# Altium integrated library Motorola Microcontroller 8-Bit.IntLib: 909 symbols (part 16 of 31)
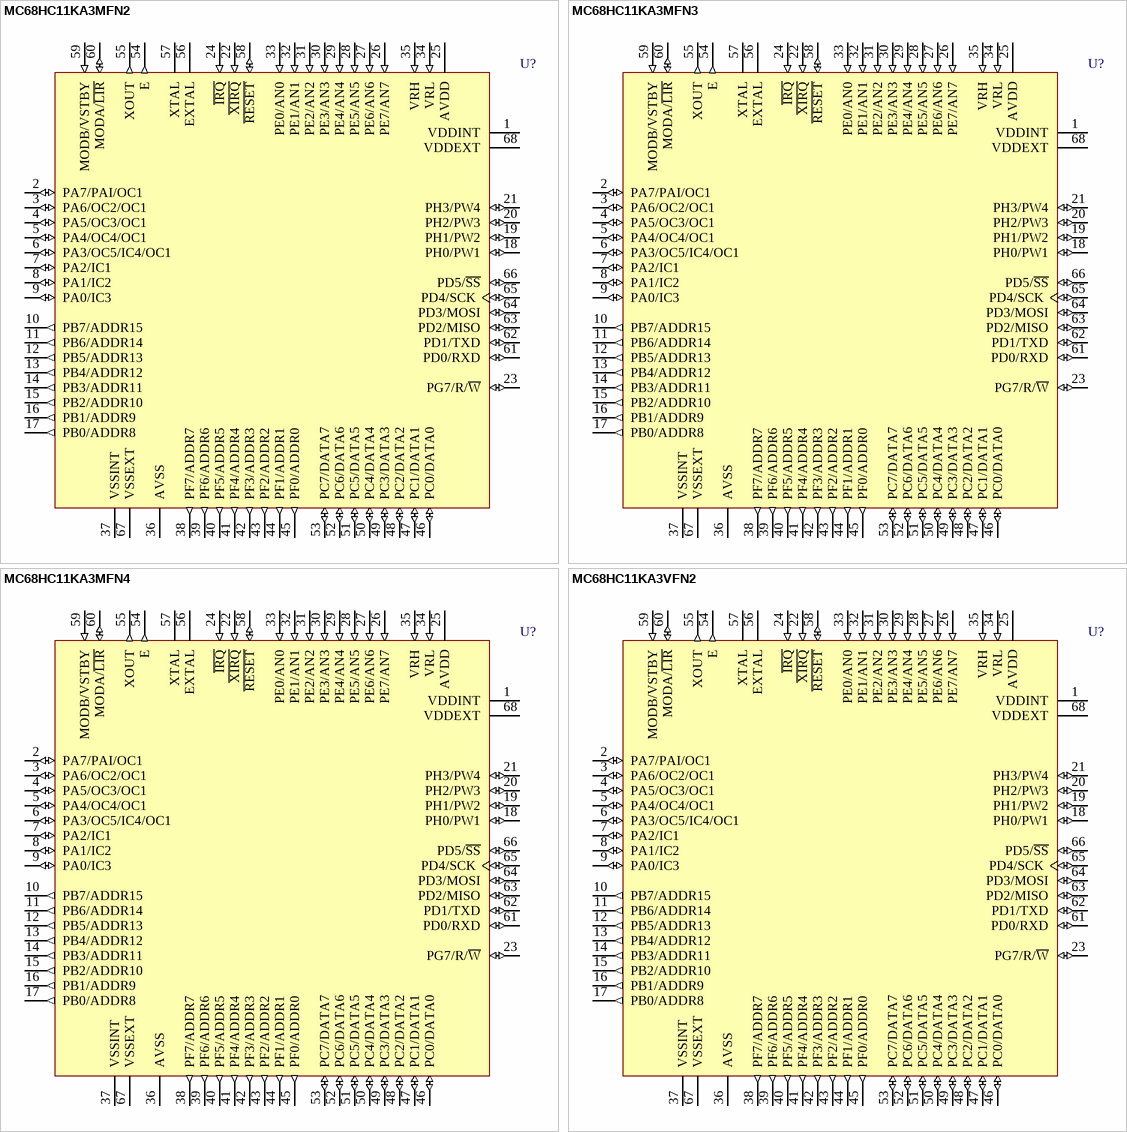
[diagram p128: symbols MC68HC11KA3MFN2 to MC68HC11KA3VFN2]

## MC68HC11KA3MFN4
designator U?
8-Bit Microcontroller; Published: 17-Jan-2003; LatestRevisionDate: 13-Apr-2006; LatestRevisionNote: IPC-7351 Footprint Added.; DatasheetVersion: 1996; PackageVersion: 2001; PackageReference: 779-02; Publisher: Altium Limited; PackageDescription: 68-Pin Leaded Chip Carrier 1.27 mm Pitch; ComponentLink1Description: Manufacturer Link; ComponentLink1URL: http://www.freescale.com/
footprint 779-02_N (Leaded Chip Carrier, 68-Leads, Body 24.2x24.2mm, Pitch 1.27mm, IPC Medium Density)
footprint 779-02_L (Leaded Chip Carrier, 68-Leads, Body 24.2x24.2mm, Pitch 1.27mm, IPC High Density)
footprint 779-02_M (Leaded Chip Carrier, 68-Leads, Body 24.2x24.2mm, Pitch 1.27mm, IPC Low Density)
3D model MC68HC11-779-02 (68-Pin Leaded Chip Carrier 1.27 mm Pitch)
pins: 1 VDDINT (power), 2 PA7/PAI/OC1 (io), 3 PA6/OC2/OC1 (io), 4 PA5/OC3/OC1 (io), 5 PA4/OC4/OC1 (io), 6 PA3/OC5/IC4/OC1 (io), 7 PA2/IC1 (io), 8 PA1/IC2 (io), 9 PA0/IC3 (io), 10 PB7/ADDR15 (out), 11 PB6/ADDR14 (out), 12 PB5/ADDR13 (out), 13 PB4/ADDR12 (out), 14 PB3/ADDR11 (out), 15 PB2/ADDR10 (out), 16 PB1/ADDR9 (out), 17 PB0/ADDR8 (out), 18 PH0/PW1 (io), 19 PH1/PW2 (io), 20 PH2/PW3 (io), 21 PH3/PW4 (io), 22 ~{XIRQ} (in), 23 PG7/R/~{W} (io), 24 ~{IRQ} (in), 25 AVDD (power), 26 PE7/AN7 (in), 27 PE6/AN6 (in), 28 PE5/AN5 (in), 29 PE4/AN4 (in), 30 PE3/AN3 (in), 31 PE2/AN2 (in), 32 PE1/AN1 (in), 33 PE0/AN0 (in), 34 VRL (in), 35 VRH (in), 36 AVSS (power), 37 VSSINT (power), 38 PF7/ADDR7 (out), 39 PF6/ADDR6 (out), 40 PF5/ADDR5 (out), 41 PF4/ADDR4 (out), 42 PF3/ADDR3 (out), 43 PF2/ADDR2 (out), 44 PF1/ADDR1 (out), 45 PF0/ADDR0 (out), 46 PC0/DATA0 (io), 47 PC1/DATA1 (io), 48 PC2/DATA2 (io), 49 PC3/DATA3 (io), 50 PC4/DATA4 (io), 51 PC5/DATA5 (io), 52 PC6/DATA6 (io), 53 PC7/DATA7 (io), 54 E (out), 55 XOUT (out), 56 EXTAL, 57 XTAL, 58 ~{RESET} (io), 59 MODB/VSTBY (in), 60 MODA/~{LIR} (io), 61 PD0/RXD (io), 62 PD1/TXD (io), 63 PD2/MISO (io), 64 PD3/MOSI (io), 65 PD4/SCK (io), 66 PD5/~{SS} (io), 67 VSSEXT (power), 68 VDDEXT (power)

## MC68HC11KA3VFN2
designator U?
8-Bit Microcontroller; Published: 17-Jan-2003; LatestRevisionDate: 13-Apr-2006; LatestRevisionNote: IPC-7351 Footprint Added.; DatasheetVersion: 1996; PackageVersion: 2001; PackageReference: 779-02; Publisher: Altium Limited; PackageDescription: 68-Pin Leaded Chip Carrier 1.27 mm Pitch; ComponentLink1Description: Manufacturer Link; ComponentLink1URL: http://www.freescale.com/
footprint 779-02_N (Leaded Chip Carrier, 68-Leads, Body 24.2x24.2mm, Pitch 1.27mm, IPC Medium Density)
footprint 779-02_L (Leaded Chip Carrier, 68-Leads, Body 24.2x24.2mm, Pitch 1.27mm, IPC High Density)
footprint 779-02_M (Leaded Chip Carrier, 68-Leads, Body 24.2x24.2mm, Pitch 1.27mm, IPC Low Density)
3D model MC68HC11-779-02 (68-Pin Leaded Chip Carrier 1.27 mm Pitch)
pins: 1 VDDINT (power), 2 PA7/PAI/OC1 (io), 3 PA6/OC2/OC1 (io), 4 PA5/OC3/OC1 (io), 5 PA4/OC4/OC1 (io), 6 PA3/OC5/IC4/OC1 (io), 7 PA2/IC1 (io), 8 PA1/IC2 (io), 9 PA0/IC3 (io), 10 PB7/ADDR15 (out), 11 PB6/ADDR14 (out), 12 PB5/ADDR13 (out), 13 PB4/ADDR12 (out), 14 PB3/ADDR11 (out), 15 PB2/ADDR10 (out), 16 PB1/ADDR9 (out), 17 PB0/ADDR8 (out), 18 PH0/PW1 (io), 19 PH1/PW2 (io), 20 PH2/PW3 (io), 21 PH3/PW4 (io), 22 ~{XIRQ} (in), 23 PG7/R/~{W} (io), 24 ~{IRQ} (in), 25 AVDD (power), 26 PE7/AN7 (in), 27 PE6/AN6 (in), 28 PE5/AN5 (in), 29 PE4/AN4 (in), 30 PE3/AN3 (in), 31 PE2/AN2 (in), 32 PE1/AN1 (in), 33 PE0/AN0 (in), 34 VRL (in), 35 VRH (in), 36 AVSS (power), 37 VSSINT (power), 38 PF7/ADDR7 (out), 39 PF6/ADDR6 (out), 40 PF5/ADDR5 (out), 41 PF4/ADDR4 (out), 42 PF3/ADDR3 (out), 43 PF2/ADDR2 (out), 44 PF1/ADDR1 (out), 45 PF0/ADDR0 (out), 46 PC0/DATA0 (io), 47 PC1/DATA1 (io), 48 PC2/DATA2 (io), 49 PC3/DATA3 (io), 50 PC4/DATA4 (io), 51 PC5/DATA5 (io), 52 PC6/DATA6 (io), 53 PC7/DATA7 (io), 54 E (out), 55 XOUT (out), 56 EXTAL, 57 XTAL, 58 ~{RESET} (io), 59 MODB/VSTBY (in), 60 MODA/~{LIR} (io), 61 PD0/RXD (io), 62 PD1/TXD (io), 63 PD2/MISO (io), 64 PD3/MOSI (io), 65 PD4/SCK (io), 66 PD5/~{SS} (io), 67 VSSEXT (power), 68 VDDEXT (power)

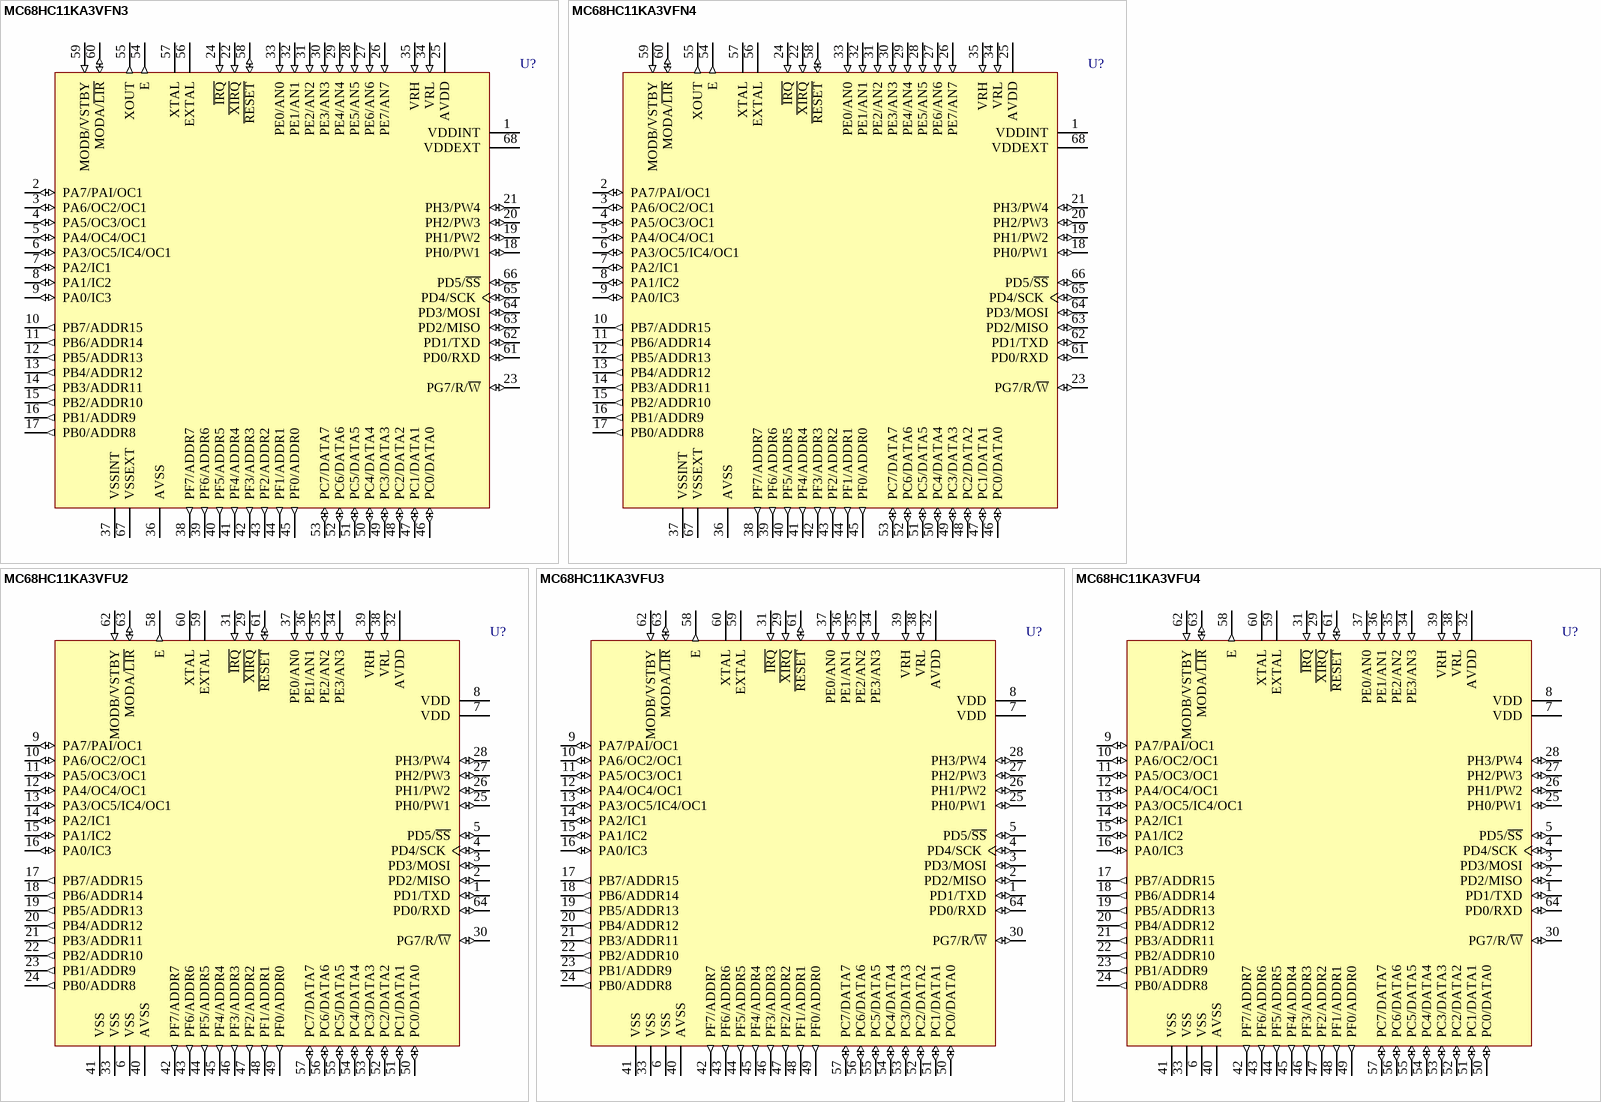
[diagram p58: symbols MC68HC11KA3VFN3 to MC68HC11KA3VFU4]

## MC68HC11KA3VFN3
designator U?
8-Bit Microcontroller; Published: 17-Jan-2003; LatestRevisionDate: 13-Apr-2006; LatestRevisionNote: IPC-7351 Footprint Added.; DatasheetVersion: 1996; PackageVersion: 2001; PackageReference: 779-02; Publisher: Altium Limited; PackageDescription: 68-Pin Leaded Chip Carrier 1.27 mm Pitch; ComponentLink1Description: Manufacturer Link; ComponentLink1URL: http://www.freescale.com/
footprint 779-02_N (Leaded Chip Carrier, 68-Leads, Body 24.2x24.2mm, Pitch 1.27mm, IPC Medium Density)
footprint 779-02_L (Leaded Chip Carrier, 68-Leads, Body 24.2x24.2mm, Pitch 1.27mm, IPC High Density)
footprint 779-02_M (Leaded Chip Carrier, 68-Leads, Body 24.2x24.2mm, Pitch 1.27mm, IPC Low Density)
3D model MC68HC11-779-02 (68-Pin Leaded Chip Carrier 1.27 mm Pitch)
pins: 1 VDDINT (power), 2 PA7/PAI/OC1 (io), 3 PA6/OC2/OC1 (io), 4 PA5/OC3/OC1 (io), 5 PA4/OC4/OC1 (io), 6 PA3/OC5/IC4/OC1 (io), 7 PA2/IC1 (io), 8 PA1/IC2 (io), 9 PA0/IC3 (io), 10 PB7/ADDR15 (out), 11 PB6/ADDR14 (out), 12 PB5/ADDR13 (out), 13 PB4/ADDR12 (out), 14 PB3/ADDR11 (out), 15 PB2/ADDR10 (out), 16 PB1/ADDR9 (out), 17 PB0/ADDR8 (out), 18 PH0/PW1 (io), 19 PH1/PW2 (io), 20 PH2/PW3 (io), 21 PH3/PW4 (io), 22 ~{XIRQ} (in), 23 PG7/R/~{W} (io), 24 ~{IRQ} (in), 25 AVDD (power), 26 PE7/AN7 (in), 27 PE6/AN6 (in), 28 PE5/AN5 (in), 29 PE4/AN4 (in), 30 PE3/AN3 (in), 31 PE2/AN2 (in), 32 PE1/AN1 (in), 33 PE0/AN0 (in), 34 VRL (in), 35 VRH (in), 36 AVSS (power), 37 VSSINT (power), 38 PF7/ADDR7 (out), 39 PF6/ADDR6 (out), 40 PF5/ADDR5 (out), 41 PF4/ADDR4 (out), 42 PF3/ADDR3 (out), 43 PF2/ADDR2 (out), 44 PF1/ADDR1 (out), 45 PF0/ADDR0 (out), 46 PC0/DATA0 (io), 47 PC1/DATA1 (io), 48 PC2/DATA2 (io), 49 PC3/DATA3 (io), 50 PC4/DATA4 (io), 51 PC5/DATA5 (io), 52 PC6/DATA6 (io), 53 PC7/DATA7 (io), 54 E (out), 55 XOUT (out), 56 EXTAL, 57 XTAL, 58 ~{RESET} (io), 59 MODB/VSTBY (in), 60 MODA/~{LIR} (io), 61 PD0/RXD (io), 62 PD1/TXD (io), 63 PD2/MISO (io), 64 PD3/MOSI (io), 65 PD4/SCK (io), 66 PD5/~{SS} (io), 67 VSSEXT (power), 68 VDDEXT (power)

## MC68HC11KA3VFN4
designator U?
8-Bit Microcontroller; Published: 17-Jan-2003; LatestRevisionDate: 13-Apr-2006; LatestRevisionNote: IPC-7351 Footprint Added.; DatasheetVersion: 1996; PackageVersion: 2001; PackageReference: 779-02; Publisher: Altium Limited; PackageDescription: 68-Pin Leaded Chip Carrier 1.27 mm Pitch; ComponentLink1Description: Manufacturer Link; ComponentLink1URL: http://www.freescale.com/
footprint 779-02_N (Leaded Chip Carrier, 68-Leads, Body 24.2x24.2mm, Pitch 1.27mm, IPC Medium Density)
footprint 779-02_L (Leaded Chip Carrier, 68-Leads, Body 24.2x24.2mm, Pitch 1.27mm, IPC High Density)
footprint 779-02_M (Leaded Chip Carrier, 68-Leads, Body 24.2x24.2mm, Pitch 1.27mm, IPC Low Density)
3D model MC68HC11-779-02 (68-Pin Leaded Chip Carrier 1.27 mm Pitch)
pins: 1 VDDINT (power), 2 PA7/PAI/OC1 (io), 3 PA6/OC2/OC1 (io), 4 PA5/OC3/OC1 (io), 5 PA4/OC4/OC1 (io), 6 PA3/OC5/IC4/OC1 (io), 7 PA2/IC1 (io), 8 PA1/IC2 (io), 9 PA0/IC3 (io), 10 PB7/ADDR15 (out), 11 PB6/ADDR14 (out), 12 PB5/ADDR13 (out), 13 PB4/ADDR12 (out), 14 PB3/ADDR11 (out), 15 PB2/ADDR10 (out), 16 PB1/ADDR9 (out), 17 PB0/ADDR8 (out), 18 PH0/PW1 (io), 19 PH1/PW2 (io), 20 PH2/PW3 (io), 21 PH3/PW4 (io), 22 ~{XIRQ} (in), 23 PG7/R/~{W} (io), 24 ~{IRQ} (in), 25 AVDD (power), 26 PE7/AN7 (in), 27 PE6/AN6 (in), 28 PE5/AN5 (in), 29 PE4/AN4 (in), 30 PE3/AN3 (in), 31 PE2/AN2 (in), 32 PE1/AN1 (in), 33 PE0/AN0 (in), 34 VRL (in), 35 VRH (in), 36 AVSS (power), 37 VSSINT (power), 38 PF7/ADDR7 (out), 39 PF6/ADDR6 (out), 40 PF5/ADDR5 (out), 41 PF4/ADDR4 (out), 42 PF3/ADDR3 (out), 43 PF2/ADDR2 (out), 44 PF1/ADDR1 (out), 45 PF0/ADDR0 (out), 46 PC0/DATA0 (io), 47 PC1/DATA1 (io), 48 PC2/DATA2 (io), 49 PC3/DATA3 (io), 50 PC4/DATA4 (io), 51 PC5/DATA5 (io), 52 PC6/DATA6 (io), 53 PC7/DATA7 (io), 54 E (out), 55 XOUT (out), 56 EXTAL, 57 XTAL, 58 ~{RESET} (io), 59 MODB/VSTBY (in), 60 MODA/~{LIR} (io), 61 PD0/RXD (io), 62 PD1/TXD (io), 63 PD2/MISO (io), 64 PD3/MOSI (io), 65 PD4/SCK (io), 66 PD5/~{SS} (io), 67 VSSEXT (power), 68 VDDEXT (power)

## MC68HC11KA3VFU2
designator U?
8-Bit Microcontroller; Published: 17-Jan-2003; LatestRevisionDate: 13-Apr-2006; LatestRevisionNote: IPC-7351 Footprint Added.; DatasheetVersion: 1996; PackageVersion: rev4, Jul-2002; PackageReference: 840C; Publisher: Altium Limited; PackageDescription: 64-Pin Quad Flat Pack 0.8 mm Pitch; ComponentLink1Description: Manufacturer Link; ComponentLink1URL: http://www.freescale.com/
footprint 840C_N (QFP, 64-Leads, Body 14x14mm, Pitch 0.8mm, IPC Medium Density)
footprint 840C_L (QFP, 64-Leads, Body 14x14mm, Pitch 0.8mm, IPC High Density)
footprint 840C_M (QFP, 64-Leads, Body 14x14mm, Pitch 0.8mm, IPC Low Density)
3D model MC68HC11-840C (64-Pin Quad Flat Pack 0.8 mm Pitch)
pins: 1 PD1/TXD (io), 2 PD2/MISO (io), 3 PD3/MOSI (io), 4 PD4/SCK (io), 5 PD5/~{SS} (io), 6 VSS (power), 7 VDD (power), 8 VDD (power), 9 PA7/PAI/OC1 (io), 10 PA6/OC2/OC1 (io), 11 PA5/OC3/OC1 (io), 12 PA4/OC4/OC1 (io), 13 PA3/OC5/IC4/OC1 (io), 14 PA2/IC1 (io), 15 PA1/IC2 (io), 16 PA0/IC3 (io), 17 PB7/ADDR15 (out), 18 PB6/ADDR14 (out), 19 PB5/ADDR13 (out), 20 PB4/ADDR12 (out), 21 PB3/ADDR11 (out), 22 PB2/ADDR10 (out), 23 PB1/ADDR9 (out), 24 PB0/ADDR8 (out), 25 PH0/PW1 (io), 26 PH1/PW2 (io), 27 PH2/PW3 (io), 28 PH3/PW4 (io), 29 ~{XIRQ} (in), 30 PG7/R/~{W} (io), 31 ~{IRQ} (in), 32 AVDD (power), 33 VSS (power), 34 PE3/AN3 (in), 35 PE2/AN2 (in), 36 PE1/AN1 (in), 37 PE0/AN0 (in), 38 VRL (in), 39 VRH (in), 40 AVSS (power), 41 VSS (power), 42 PF7/ADDR7 (out), 43 PF6/ADDR6 (out), 44 PF5/ADDR5 (out), 45 PF4/ADDR4 (out), 46 PF3/ADDR3 (out), 47 PF2/ADDR2 (out), 48 PF1/ADDR1 (out), 49 PF0/ADDR0 (out), 50 PC0/DATA0 (io), 51 PC1/DATA1 (io), 52 PC2/DATA2 (io), 53 PC3/DATA3 (io), 54 PC4/DATA4 (io), 55 PC5/DATA5 (io), 56 PC6/DATA6 (io), 57 PC7/DATA7 (io), 58 E (out), 59 EXTAL, 60 XTAL, 61 ~{RESET} (io), 62 MODB/VSTBY (in), 63 MODA/~{LIR} (io), 64 PD0/RXD (io)

## MC68HC11KA3VFU3
designator U?
8-Bit Microcontroller; Published: 17-Jan-2003; LatestRevisionDate: 13-Apr-2006; LatestRevisionNote: IPC-7351 Footprint Added.; DatasheetVersion: 1996; PackageVersion: rev4, Jul-2002; PackageReference: 840C; Publisher: Altium Limited; PackageDescription: 64-Pin Quad Flat Pack 0.8 mm Pitch; ComponentLink1Description: Manufacturer Link; ComponentLink1URL: http://www.freescale.com/
footprint 840C_N (QFP, 64-Leads, Body 14x14mm, Pitch 0.8mm, IPC Medium Density)
footprint 840C_L (QFP, 64-Leads, Body 14x14mm, Pitch 0.8mm, IPC High Density)
footprint 840C_M (QFP, 64-Leads, Body 14x14mm, Pitch 0.8mm, IPC Low Density)
3D model MC68HC11-840C (64-Pin Quad Flat Pack 0.8 mm Pitch)
pins: 1 PD1/TXD (io), 2 PD2/MISO (io), 3 PD3/MOSI (io), 4 PD4/SCK (io), 5 PD5/~{SS} (io), 6 VSS (power), 7 VDD (power), 8 VDD (power), 9 PA7/PAI/OC1 (io), 10 PA6/OC2/OC1 (io), 11 PA5/OC3/OC1 (io), 12 PA4/OC4/OC1 (io), 13 PA3/OC5/IC4/OC1 (io), 14 PA2/IC1 (io), 15 PA1/IC2 (io), 16 PA0/IC3 (io), 17 PB7/ADDR15 (out), 18 PB6/ADDR14 (out), 19 PB5/ADDR13 (out), 20 PB4/ADDR12 (out), 21 PB3/ADDR11 (out), 22 PB2/ADDR10 (out), 23 PB1/ADDR9 (out), 24 PB0/ADDR8 (out), 25 PH0/PW1 (io), 26 PH1/PW2 (io), 27 PH2/PW3 (io), 28 PH3/PW4 (io), 29 ~{XIRQ} (in), 30 PG7/R/~{W} (io), 31 ~{IRQ} (in), 32 AVDD (power), 33 VSS (power), 34 PE3/AN3 (in), 35 PE2/AN2 (in), 36 PE1/AN1 (in), 37 PE0/AN0 (in), 38 VRL (in), 39 VRH (in), 40 AVSS (power), 41 VSS (power), 42 PF7/ADDR7 (out), 43 PF6/ADDR6 (out), 44 PF5/ADDR5 (out), 45 PF4/ADDR4 (out), 46 PF3/ADDR3 (out), 47 PF2/ADDR2 (out), 48 PF1/ADDR1 (out), 49 PF0/ADDR0 (out), 50 PC0/DATA0 (io), 51 PC1/DATA1 (io), 52 PC2/DATA2 (io), 53 PC3/DATA3 (io), 54 PC4/DATA4 (io), 55 PC5/DATA5 (io), 56 PC6/DATA6 (io), 57 PC7/DATA7 (io), 58 E (out), 59 EXTAL, 60 XTAL, 61 ~{RESET} (io), 62 MODB/VSTBY (in), 63 MODA/~{LIR} (io), 64 PD0/RXD (io)

## MC68HC11KA3VFU4
designator U?
8-Bit Microcontroller; Published: 17-Jan-2003; LatestRevisionDate: 13-Apr-2006; LatestRevisionNote: IPC-7351 Footprint Added.; DatasheetVersion: 1996; PackageVersion: rev4, Jul-2002; PackageReference: 840C; Publisher: Altium Limited; PackageDescription: 64-Pin Quad Flat Pack 0.8 mm Pitch; ComponentLink1Description: Manufacturer Link; ComponentLink1URL: http://www.freescale.com/
footprint 840C_N (QFP, 64-Leads, Body 14x14mm, Pitch 0.8mm, IPC Medium Density)
footprint 840C_L (QFP, 64-Leads, Body 14x14mm, Pitch 0.8mm, IPC High Density)
footprint 840C_M (QFP, 64-Leads, Body 14x14mm, Pitch 0.8mm, IPC Low Density)
3D model MC68HC11-840C (64-Pin Quad Flat Pack 0.8 mm Pitch)
pins: 1 PD1/TXD (io), 2 PD2/MISO (io), 3 PD3/MOSI (io), 4 PD4/SCK (io), 5 PD5/~{SS} (io), 6 VSS (power), 7 VDD (power), 8 VDD (power), 9 PA7/PAI/OC1 (io), 10 PA6/OC2/OC1 (io), 11 PA5/OC3/OC1 (io), 12 PA4/OC4/OC1 (io), 13 PA3/OC5/IC4/OC1 (io), 14 PA2/IC1 (io), 15 PA1/IC2 (io), 16 PA0/IC3 (io), 17 PB7/ADDR15 (out), 18 PB6/ADDR14 (out), 19 PB5/ADDR13 (out), 20 PB4/ADDR12 (out), 21 PB3/ADDR11 (out), 22 PB2/ADDR10 (out), 23 PB1/ADDR9 (out), 24 PB0/ADDR8 (out), 25 PH0/PW1 (io), 26 PH1/PW2 (io), 27 PH2/PW3 (io), 28 PH3/PW4 (io), 29 ~{XIRQ} (in), 30 PG7/R/~{W} (io), 31 ~{IRQ} (in), 32 AVDD (power), 33 VSS (power), 34 PE3/AN3 (in), 35 PE2/AN2 (in), 36 PE1/AN1 (in), 37 PE0/AN0 (in), 38 VRL (in), 39 VRH (in), 40 AVSS (power), 41 VSS (power), 42 PF7/ADDR7 (out), 43 PF6/ADDR6 (out), 44 PF5/ADDR5 (out), 45 PF4/ADDR4 (out), 46 PF3/ADDR3 (out), 47 PF2/ADDR2 (out), 48 PF1/ADDR1 (out), 49 PF0/ADDR0 (out), 50 PC0/DATA0 (io), 51 PC1/DATA1 (io), 52 PC2/DATA2 (io), 53 PC3/DATA3 (io), 54 PC4/DATA4 (io), 55 PC5/DATA5 (io), 56 PC6/DATA6 (io), 57 PC7/DATA7 (io), 58 E (out), 59 EXTAL, 60 XTAL, 61 ~{RESET} (io), 62 MODB/VSTBY (in), 63 MODA/~{LIR} (io), 64 PD0/RXD (io)

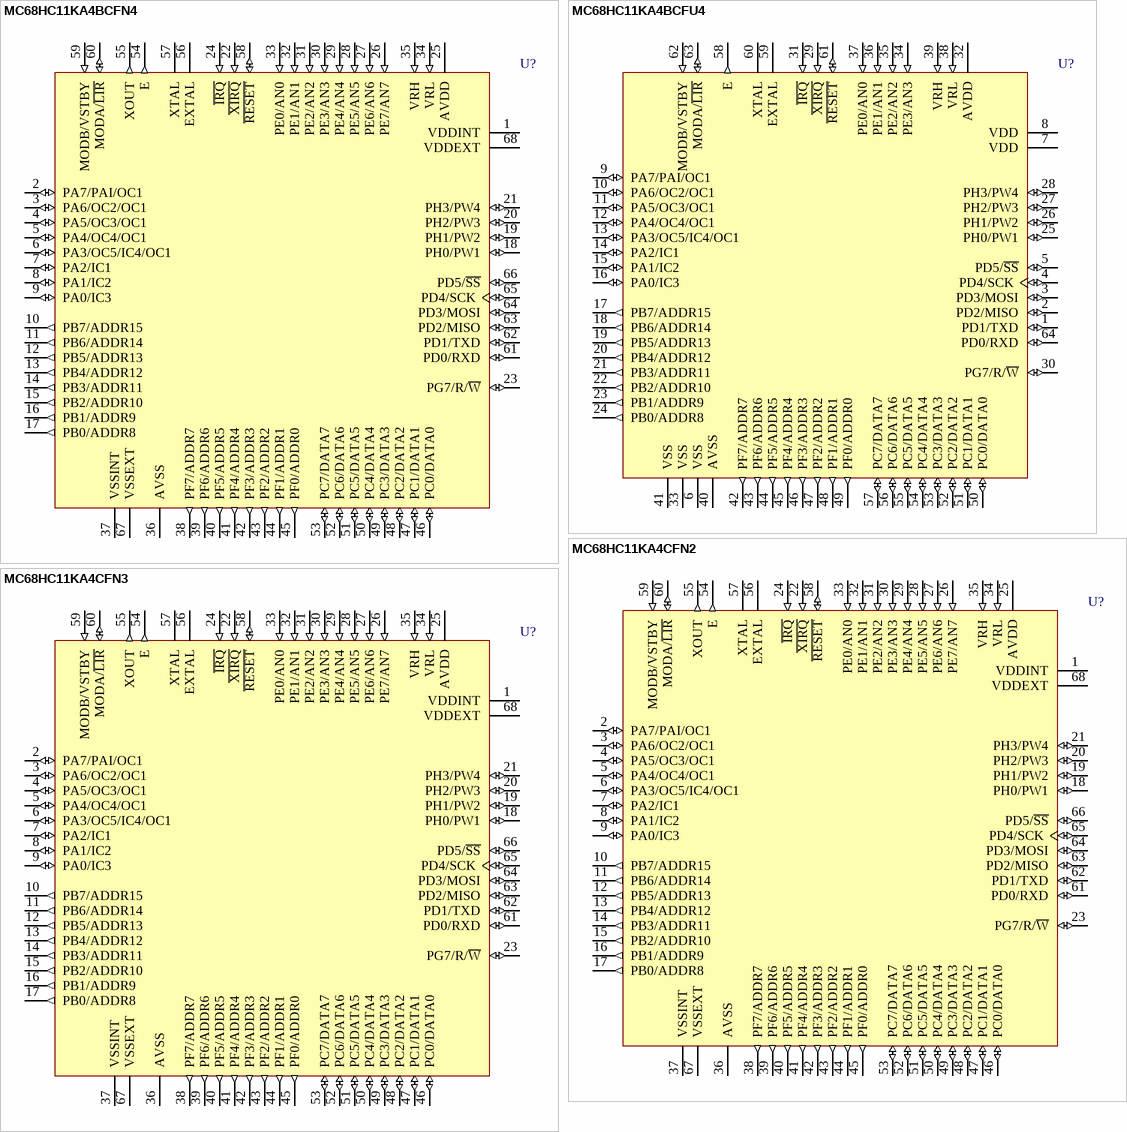
[diagram p59: symbols MC68HC11KA4BCFN4 to MC68HC11KA4CFN3]

## MC68HC11KA4BCFN4
designator U?
8-Bit Microcontroller; Published: 17-Jan-2003; LatestRevisionDate: 13-Apr-2006; LatestRevisionNote: IPC-7351 Footprint Added.; DatasheetVersion: 1996; PackageVersion: 2001; PackageReference: 779-02; Publisher: Altium Limited; PackageDescription: 68-Pin Leaded Chip Carrier 1.27 mm Pitch; ComponentLink1Description: Manufacturer Link; ComponentLink1URL: http://www.freescale.com/
footprint 779-02_N (Leaded Chip Carrier, 68-Leads, Body 24.2x24.2mm, Pitch 1.27mm, IPC Medium Density)
footprint 779-02_L (Leaded Chip Carrier, 68-Leads, Body 24.2x24.2mm, Pitch 1.27mm, IPC High Density)
footprint 779-02_M (Leaded Chip Carrier, 68-Leads, Body 24.2x24.2mm, Pitch 1.27mm, IPC Low Density)
3D model MC68HC11-779-02 (68-Pin Leaded Chip Carrier 1.27 mm Pitch)
pins: 1 VDDINT (power), 2 PA7/PAI/OC1 (io), 3 PA6/OC2/OC1 (io), 4 PA5/OC3/OC1 (io), 5 PA4/OC4/OC1 (io), 6 PA3/OC5/IC4/OC1 (io), 7 PA2/IC1 (io), 8 PA1/IC2 (io), 9 PA0/IC3 (io), 10 PB7/ADDR15 (out), 11 PB6/ADDR14 (out), 12 PB5/ADDR13 (out), 13 PB4/ADDR12 (out), 14 PB3/ADDR11 (out), 15 PB2/ADDR10 (out), 16 PB1/ADDR9 (out), 17 PB0/ADDR8 (out), 18 PH0/PW1 (io), 19 PH1/PW2 (io), 20 PH2/PW3 (io), 21 PH3/PW4 (io), 22 ~{XIRQ} (in), 23 PG7/R/~{W} (io), 24 ~{IRQ} (in), 25 AVDD (power), 26 PE7/AN7 (in), 27 PE6/AN6 (in), 28 PE5/AN5 (in), 29 PE4/AN4 (in), 30 PE3/AN3 (in), 31 PE2/AN2 (in), 32 PE1/AN1 (in), 33 PE0/AN0 (in), 34 VRL (in), 35 VRH (in), 36 AVSS (power), 37 VSSINT (power), 38 PF7/ADDR7 (out), 39 PF6/ADDR6 (out), 40 PF5/ADDR5 (out), 41 PF4/ADDR4 (out), 42 PF3/ADDR3 (out), 43 PF2/ADDR2 (out), 44 PF1/ADDR1 (out), 45 PF0/ADDR0 (out), 46 PC0/DATA0 (io), 47 PC1/DATA1 (io), 48 PC2/DATA2 (io), 49 PC3/DATA3 (io), 50 PC4/DATA4 (io), 51 PC5/DATA5 (io), 52 PC6/DATA6 (io), 53 PC7/DATA7 (io), 54 E (out), 55 XOUT (out), 56 EXTAL, 57 XTAL, 58 ~{RESET} (io), 59 MODB/VSTBY (in), 60 MODA/~{LIR} (io), 61 PD0/RXD (io), 62 PD1/TXD (io), 63 PD2/MISO (io), 64 PD3/MOSI (io), 65 PD4/SCK (io), 66 PD5/~{SS} (io), 67 VSSEXT (power), 68 VDDEXT (power)

## MC68HC11KA4BCFU4
designator U?
8-Bit Microcontroller; Published: 17-Jan-2003; LatestRevisionDate: 13-Apr-2006; LatestRevisionNote: IPC-7351 Footprint Added.; DatasheetVersion: 1996; PackageVersion: rev4, Jul-2002; PackageReference: 840C; Publisher: Altium Limited; PackageDescription: 64-Pin Quad Flat Pack 0.8 mm Pitch; ComponentLink1Description: Manufacturer Link; ComponentLink1URL: http://www.freescale.com/
footprint 840C_N (QFP, 64-Leads, Body 14x14mm, Pitch 0.8mm, IPC Medium Density)
footprint 840C_L (QFP, 64-Leads, Body 14x14mm, Pitch 0.8mm, IPC High Density)
footprint 840C_M (QFP, 64-Leads, Body 14x14mm, Pitch 0.8mm, IPC Low Density)
3D model MC68HC11-840C (64-Pin Quad Flat Pack 0.8 mm Pitch)
pins: 1 PD1/TXD (io), 2 PD2/MISO (io), 3 PD3/MOSI (io), 4 PD4/SCK (io), 5 PD5/~{SS} (io), 6 VSS (power), 7 VDD (power), 8 VDD (power), 9 PA7/PAI/OC1 (io), 10 PA6/OC2/OC1 (io), 11 PA5/OC3/OC1 (io), 12 PA4/OC4/OC1 (io), 13 PA3/OC5/IC4/OC1 (io), 14 PA2/IC1 (io), 15 PA1/IC2 (io), 16 PA0/IC3 (io), 17 PB7/ADDR15 (out), 18 PB6/ADDR14 (out), 19 PB5/ADDR13 (out), 20 PB4/ADDR12 (out), 21 PB3/ADDR11 (out), 22 PB2/ADDR10 (out), 23 PB1/ADDR9 (out), 24 PB0/ADDR8 (out), 25 PH0/PW1 (io), 26 PH1/PW2 (io), 27 PH2/PW3 (io), 28 PH3/PW4 (io), 29 ~{XIRQ} (in), 30 PG7/R/~{W} (io), 31 ~{IRQ} (in), 32 AVDD (power), 33 VSS (power), 34 PE3/AN3 (in), 35 PE2/AN2 (in), 36 PE1/AN1 (in), 37 PE0/AN0 (in), 38 VRL (in), 39 VRH (in), 40 AVSS (power), 41 VSS (power), 42 PF7/ADDR7 (out), 43 PF6/ADDR6 (out), 44 PF5/ADDR5 (out), 45 PF4/ADDR4 (out), 46 PF3/ADDR3 (out), 47 PF2/ADDR2 (out), 48 PF1/ADDR1 (out), 49 PF0/ADDR0 (out), 50 PC0/DATA0 (io), 51 PC1/DATA1 (io), 52 PC2/DATA2 (io), 53 PC3/DATA3 (io), 54 PC4/DATA4 (io), 55 PC5/DATA5 (io), 56 PC6/DATA6 (io), 57 PC7/DATA7 (io), 58 E (out), 59 EXTAL, 60 XTAL, 61 ~{RESET} (io), 62 MODB/VSTBY (in), 63 MODA/~{LIR} (io), 64 PD0/RXD (io)

## MC68HC11KA4CFN2
designator U?
8-Bit Microcontroller; Published: 17-Jan-2003; LatestRevisionDate: 13-Apr-2006; LatestRevisionNote: IPC-7351 Footprint Added.; DatasheetVersion: 1996; PackageVersion: 2001; PackageReference: 779-02; Publisher: Altium Limited; PackageDescription: 68-Pin Leaded Chip Carrier 1.27 mm Pitch; ComponentLink1Description: Manufacturer Link; ComponentLink1URL: http://www.freescale.com/
footprint 779-02_N (Leaded Chip Carrier, 68-Leads, Body 24.2x24.2mm, Pitch 1.27mm, IPC Medium Density)
footprint 779-02_L (Leaded Chip Carrier, 68-Leads, Body 24.2x24.2mm, Pitch 1.27mm, IPC High Density)
footprint 779-02_M (Leaded Chip Carrier, 68-Leads, Body 24.2x24.2mm, Pitch 1.27mm, IPC Low Density)
3D model MC68HC11-779-02 (68-Pin Leaded Chip Carrier 1.27 mm Pitch)
pins: 1 VDDINT (power), 2 PA7/PAI/OC1 (io), 3 PA6/OC2/OC1 (io), 4 PA5/OC3/OC1 (io), 5 PA4/OC4/OC1 (io), 6 PA3/OC5/IC4/OC1 (io), 7 PA2/IC1 (io), 8 PA1/IC2 (io), 9 PA0/IC3 (io), 10 PB7/ADDR15 (out), 11 PB6/ADDR14 (out), 12 PB5/ADDR13 (out), 13 PB4/ADDR12 (out), 14 PB3/ADDR11 (out), 15 PB2/ADDR10 (out), 16 PB1/ADDR9 (out), 17 PB0/ADDR8 (out), 18 PH0/PW1 (io), 19 PH1/PW2 (io), 20 PH2/PW3 (io), 21 PH3/PW4 (io), 22 ~{XIRQ} (in), 23 PG7/R/~{W} (io), 24 ~{IRQ} (in), 25 AVDD (power), 26 PE7/AN7 (in), 27 PE6/AN6 (in), 28 PE5/AN5 (in), 29 PE4/AN4 (in), 30 PE3/AN3 (in), 31 PE2/AN2 (in), 32 PE1/AN1 (in), 33 PE0/AN0 (in), 34 VRL (in), 35 VRH (in), 36 AVSS (power), 37 VSSINT (power), 38 PF7/ADDR7 (out), 39 PF6/ADDR6 (out), 40 PF5/ADDR5 (out), 41 PF4/ADDR4 (out), 42 PF3/ADDR3 (out), 43 PF2/ADDR2 (out), 44 PF1/ADDR1 (out), 45 PF0/ADDR0 (out), 46 PC0/DATA0 (io), 47 PC1/DATA1 (io), 48 PC2/DATA2 (io), 49 PC3/DATA3 (io), 50 PC4/DATA4 (io), 51 PC5/DATA5 (io), 52 PC6/DATA6 (io), 53 PC7/DATA7 (io), 54 E (out), 55 XOUT (out), 56 EXTAL, 57 XTAL, 58 ~{RESET} (io), 59 MODB/VSTBY (in), 60 MODA/~{LIR} (io), 61 PD0/RXD (io), 62 PD1/TXD (io), 63 PD2/MISO (io), 64 PD3/MOSI (io), 65 PD4/SCK (io), 66 PD5/~{SS} (io), 67 VSSEXT (power), 68 VDDEXT (power)

## MC68HC11KA4CFN3
designator U?
8-Bit Microcontroller; Published: 17-Jan-2003; LatestRevisionDate: 13-Apr-2006; LatestRevisionNote: IPC-7351 Footprint Added.; DatasheetVersion: 1996; PackageVersion: 2001; PackageReference: 779-02; Publisher: Altium Limited; PackageDescription: 68-Pin Leaded Chip Carrier 1.27 mm Pitch; ComponentLink1Description: Manufacturer Link; ComponentLink1URL: http://www.freescale.com/
footprint 779-02_N (Leaded Chip Carrier, 68-Leads, Body 24.2x24.2mm, Pitch 1.27mm, IPC Medium Density)
footprint 779-02_L (Leaded Chip Carrier, 68-Leads, Body 24.2x24.2mm, Pitch 1.27mm, IPC High Density)
footprint 779-02_M (Leaded Chip Carrier, 68-Leads, Body 24.2x24.2mm, Pitch 1.27mm, IPC Low Density)
3D model MC68HC11-779-02 (68-Pin Leaded Chip Carrier 1.27 mm Pitch)
pins: 1 VDDINT (power), 2 PA7/PAI/OC1 (io), 3 PA6/OC2/OC1 (io), 4 PA5/OC3/OC1 (io), 5 PA4/OC4/OC1 (io), 6 PA3/OC5/IC4/OC1 (io), 7 PA2/IC1 (io), 8 PA1/IC2 (io), 9 PA0/IC3 (io), 10 PB7/ADDR15 (out), 11 PB6/ADDR14 (out), 12 PB5/ADDR13 (out), 13 PB4/ADDR12 (out), 14 PB3/ADDR11 (out), 15 PB2/ADDR10 (out), 16 PB1/ADDR9 (out), 17 PB0/ADDR8 (out), 18 PH0/PW1 (io), 19 PH1/PW2 (io), 20 PH2/PW3 (io), 21 PH3/PW4 (io), 22 ~{XIRQ} (in), 23 PG7/R/~{W} (io), 24 ~{IRQ} (in), 25 AVDD (power), 26 PE7/AN7 (in), 27 PE6/AN6 (in), 28 PE5/AN5 (in), 29 PE4/AN4 (in), 30 PE3/AN3 (in), 31 PE2/AN2 (in), 32 PE1/AN1 (in), 33 PE0/AN0 (in), 34 VRL (in), 35 VRH (in), 36 AVSS (power), 37 VSSINT (power), 38 PF7/ADDR7 (out), 39 PF6/ADDR6 (out), 40 PF5/ADDR5 (out), 41 PF4/ADDR4 (out), 42 PF3/ADDR3 (out), 43 PF2/ADDR2 (out), 44 PF1/ADDR1 (out), 45 PF0/ADDR0 (out), 46 PC0/DATA0 (io), 47 PC1/DATA1 (io), 48 PC2/DATA2 (io), 49 PC3/DATA3 (io), 50 PC4/DATA4 (io), 51 PC5/DATA5 (io), 52 PC6/DATA6 (io), 53 PC7/DATA7 (io), 54 E (out), 55 XOUT (out), 56 EXTAL, 57 XTAL, 58 ~{RESET} (io), 59 MODB/VSTBY (in), 60 MODA/~{LIR} (io), 61 PD0/RXD (io), 62 PD1/TXD (io), 63 PD2/MISO (io), 64 PD3/MOSI (io), 65 PD4/SCK (io), 66 PD5/~{SS} (io), 67 VSSEXT (power), 68 VDDEXT (power)

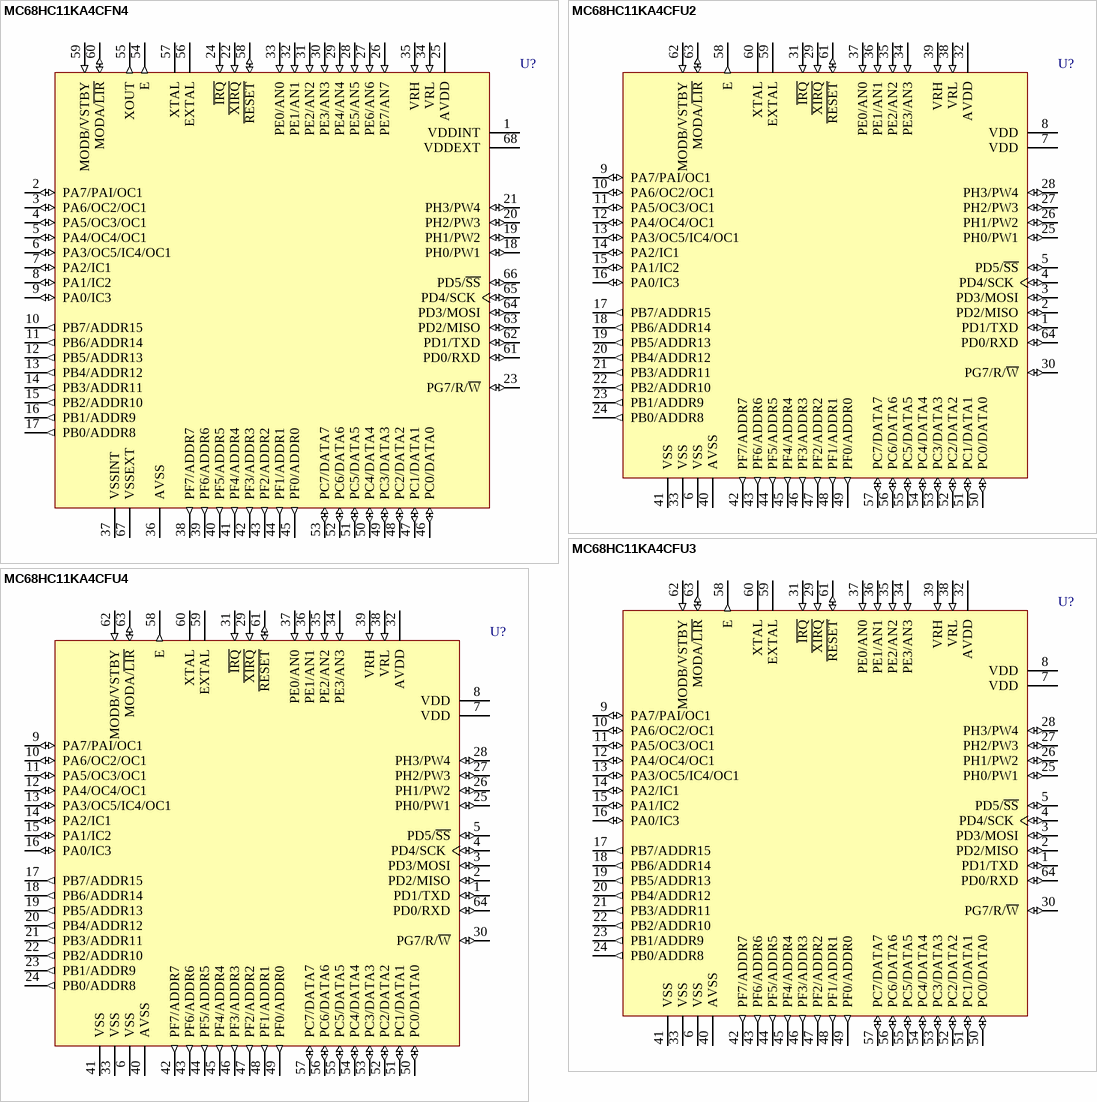
[diagram p60: symbols MC68HC11KA4CFN4 to MC68HC11KA4CFU4]

## MC68HC11KA4CFN4
designator U?
8-Bit Microcontroller; Published: 17-Jan-2003; LatestRevisionDate: 13-Apr-2006; LatestRevisionNote: IPC-7351 Footprint Added.; DatasheetVersion: 1996; PackageVersion: 2001; PackageReference: 779-02; Publisher: Altium Limited; PackageDescription: 68-Pin Leaded Chip Carrier 1.27 mm Pitch; ComponentLink1Description: Manufacturer Link; ComponentLink1URL: http://www.freescale.com/
footprint 779-02_N (Leaded Chip Carrier, 68-Leads, Body 24.2x24.2mm, Pitch 1.27mm, IPC Medium Density)
footprint 779-02_L (Leaded Chip Carrier, 68-Leads, Body 24.2x24.2mm, Pitch 1.27mm, IPC High Density)
footprint 779-02_M (Leaded Chip Carrier, 68-Leads, Body 24.2x24.2mm, Pitch 1.27mm, IPC Low Density)
3D model MC68HC11-779-02 (68-Pin Leaded Chip Carrier 1.27 mm Pitch)
pins: 1 VDDINT (power), 2 PA7/PAI/OC1 (io), 3 PA6/OC2/OC1 (io), 4 PA5/OC3/OC1 (io), 5 PA4/OC4/OC1 (io), 6 PA3/OC5/IC4/OC1 (io), 7 PA2/IC1 (io), 8 PA1/IC2 (io), 9 PA0/IC3 (io), 10 PB7/ADDR15 (out), 11 PB6/ADDR14 (out), 12 PB5/ADDR13 (out), 13 PB4/ADDR12 (out), 14 PB3/ADDR11 (out), 15 PB2/ADDR10 (out), 16 PB1/ADDR9 (out), 17 PB0/ADDR8 (out), 18 PH0/PW1 (io), 19 PH1/PW2 (io), 20 PH2/PW3 (io), 21 PH3/PW4 (io), 22 ~{XIRQ} (in), 23 PG7/R/~{W} (io), 24 ~{IRQ} (in), 25 AVDD (power), 26 PE7/AN7 (in), 27 PE6/AN6 (in), 28 PE5/AN5 (in), 29 PE4/AN4 (in), 30 PE3/AN3 (in), 31 PE2/AN2 (in), 32 PE1/AN1 (in), 33 PE0/AN0 (in), 34 VRL (in), 35 VRH (in), 36 AVSS (power), 37 VSSINT (power), 38 PF7/ADDR7 (out), 39 PF6/ADDR6 (out), 40 PF5/ADDR5 (out), 41 PF4/ADDR4 (out), 42 PF3/ADDR3 (out), 43 PF2/ADDR2 (out), 44 PF1/ADDR1 (out), 45 PF0/ADDR0 (out), 46 PC0/DATA0 (io), 47 PC1/DATA1 (io), 48 PC2/DATA2 (io), 49 PC3/DATA3 (io), 50 PC4/DATA4 (io), 51 PC5/DATA5 (io), 52 PC6/DATA6 (io), 53 PC7/DATA7 (io), 54 E (out), 55 XOUT (out), 56 EXTAL, 57 XTAL, 58 ~{RESET} (io), 59 MODB/VSTBY (in), 60 MODA/~{LIR} (io), 61 PD0/RXD (io), 62 PD1/TXD (io), 63 PD2/MISO (io), 64 PD3/MOSI (io), 65 PD4/SCK (io), 66 PD5/~{SS} (io), 67 VSSEXT (power), 68 VDDEXT (power)

## MC68HC11KA4CFU2
designator U?
8-Bit Microcontroller; Published: 17-Jan-2003; LatestRevisionDate: 13-Apr-2006; LatestRevisionNote: IPC-7351 Footprint Added.; DatasheetVersion: 1996; PackageVersion: rev4, Jul-2002; PackageReference: 840C; Publisher: Altium Limited; PackageDescription: 64-Pin Quad Flat Pack 0.8 mm Pitch; ComponentLink1Description: Manufacturer Link; ComponentLink1URL: http://www.freescale.com/
footprint 840C_N (QFP, 64-Leads, Body 14x14mm, Pitch 0.8mm, IPC Medium Density)
footprint 840C_L (QFP, 64-Leads, Body 14x14mm, Pitch 0.8mm, IPC High Density)
footprint 840C_M (QFP, 64-Leads, Body 14x14mm, Pitch 0.8mm, IPC Low Density)
3D model MC68HC11-840C (64-Pin Quad Flat Pack 0.8 mm Pitch)
pins: 1 PD1/TXD (io), 2 PD2/MISO (io), 3 PD3/MOSI (io), 4 PD4/SCK (io), 5 PD5/~{SS} (io), 6 VSS (power), 7 VDD (power), 8 VDD (power), 9 PA7/PAI/OC1 (io), 10 PA6/OC2/OC1 (io), 11 PA5/OC3/OC1 (io), 12 PA4/OC4/OC1 (io), 13 PA3/OC5/IC4/OC1 (io), 14 PA2/IC1 (io), 15 PA1/IC2 (io), 16 PA0/IC3 (io), 17 PB7/ADDR15 (out), 18 PB6/ADDR14 (out), 19 PB5/ADDR13 (out), 20 PB4/ADDR12 (out), 21 PB3/ADDR11 (out), 22 PB2/ADDR10 (out), 23 PB1/ADDR9 (out), 24 PB0/ADDR8 (out), 25 PH0/PW1 (io), 26 PH1/PW2 (io), 27 PH2/PW3 (io), 28 PH3/PW4 (io), 29 ~{XIRQ} (in), 30 PG7/R/~{W} (io), 31 ~{IRQ} (in), 32 AVDD (power), 33 VSS (power), 34 PE3/AN3 (in), 35 PE2/AN2 (in), 36 PE1/AN1 (in), 37 PE0/AN0 (in), 38 VRL (in), 39 VRH (in), 40 AVSS (power), 41 VSS (power), 42 PF7/ADDR7 (out), 43 PF6/ADDR6 (out), 44 PF5/ADDR5 (out), 45 PF4/ADDR4 (out), 46 PF3/ADDR3 (out), 47 PF2/ADDR2 (out), 48 PF1/ADDR1 (out), 49 PF0/ADDR0 (out), 50 PC0/DATA0 (io), 51 PC1/DATA1 (io), 52 PC2/DATA2 (io), 53 PC3/DATA3 (io), 54 PC4/DATA4 (io), 55 PC5/DATA5 (io), 56 PC6/DATA6 (io), 57 PC7/DATA7 (io), 58 E (out), 59 EXTAL, 60 XTAL, 61 ~{RESET} (io), 62 MODB/VSTBY (in), 63 MODA/~{LIR} (io), 64 PD0/RXD (io)

## MC68HC11KA4CFU3
designator U?
8-Bit Microcontroller; Published: 17-Jan-2003; LatestRevisionDate: 13-Apr-2006; LatestRevisionNote: IPC-7351 Footprint Added.; DatasheetVersion: 1996; PackageVersion: rev4, Jul-2002; PackageReference: 840C; Publisher: Altium Limited; PackageDescription: 64-Pin Quad Flat Pack 0.8 mm Pitch; ComponentLink1Description: Manufacturer Link; ComponentLink1URL: http://www.freescale.com/
footprint 840C_N (QFP, 64-Leads, Body 14x14mm, Pitch 0.8mm, IPC Medium Density)
footprint 840C_L (QFP, 64-Leads, Body 14x14mm, Pitch 0.8mm, IPC High Density)
footprint 840C_M (QFP, 64-Leads, Body 14x14mm, Pitch 0.8mm, IPC Low Density)
3D model MC68HC11-840C (64-Pin Quad Flat Pack 0.8 mm Pitch)
pins: 1 PD1/TXD (io), 2 PD2/MISO (io), 3 PD3/MOSI (io), 4 PD4/SCK (io), 5 PD5/~{SS} (io), 6 VSS (power), 7 VDD (power), 8 VDD (power), 9 PA7/PAI/OC1 (io), 10 PA6/OC2/OC1 (io), 11 PA5/OC3/OC1 (io), 12 PA4/OC4/OC1 (io), 13 PA3/OC5/IC4/OC1 (io), 14 PA2/IC1 (io), 15 PA1/IC2 (io), 16 PA0/IC3 (io), 17 PB7/ADDR15 (out), 18 PB6/ADDR14 (out), 19 PB5/ADDR13 (out), 20 PB4/ADDR12 (out), 21 PB3/ADDR11 (out), 22 PB2/ADDR10 (out), 23 PB1/ADDR9 (out), 24 PB0/ADDR8 (out), 25 PH0/PW1 (io), 26 PH1/PW2 (io), 27 PH2/PW3 (io), 28 PH3/PW4 (io), 29 ~{XIRQ} (in), 30 PG7/R/~{W} (io), 31 ~{IRQ} (in), 32 AVDD (power), 33 VSS (power), 34 PE3/AN3 (in), 35 PE2/AN2 (in), 36 PE1/AN1 (in), 37 PE0/AN0 (in), 38 VRL (in), 39 VRH (in), 40 AVSS (power), 41 VSS (power), 42 PF7/ADDR7 (out), 43 PF6/ADDR6 (out), 44 PF5/ADDR5 (out), 45 PF4/ADDR4 (out), 46 PF3/ADDR3 (out), 47 PF2/ADDR2 (out), 48 PF1/ADDR1 (out), 49 PF0/ADDR0 (out), 50 PC0/DATA0 (io), 51 PC1/DATA1 (io), 52 PC2/DATA2 (io), 53 PC3/DATA3 (io), 54 PC4/DATA4 (io), 55 PC5/DATA5 (io), 56 PC6/DATA6 (io), 57 PC7/DATA7 (io), 58 E (out), 59 EXTAL, 60 XTAL, 61 ~{RESET} (io), 62 MODB/VSTBY (in), 63 MODA/~{LIR} (io), 64 PD0/RXD (io)

## MC68HC11KA4CFU4
designator U?
8-Bit Microcontroller; Published: 17-Jan-2003; LatestRevisionDate: 13-Apr-2006; LatestRevisionNote: IPC-7351 Footprint Added.; DatasheetVersion: 1996; PackageVersion: rev4, Jul-2002; PackageReference: 840C; Publisher: Altium Limited; PackageDescription: 64-Pin Quad Flat Pack 0.8 mm Pitch; ComponentLink1Description: Manufacturer Link; ComponentLink1URL: http://www.freescale.com/
footprint 840C_N (QFP, 64-Leads, Body 14x14mm, Pitch 0.8mm, IPC Medium Density)
footprint 840C_L (QFP, 64-Leads, Body 14x14mm, Pitch 0.8mm, IPC High Density)
footprint 840C_M (QFP, 64-Leads, Body 14x14mm, Pitch 0.8mm, IPC Low Density)
3D model MC68HC11-840C (64-Pin Quad Flat Pack 0.8 mm Pitch)
pins: 1 PD1/TXD (io), 2 PD2/MISO (io), 3 PD3/MOSI (io), 4 PD4/SCK (io), 5 PD5/~{SS} (io), 6 VSS (power), 7 VDD (power), 8 VDD (power), 9 PA7/PAI/OC1 (io), 10 PA6/OC2/OC1 (io), 11 PA5/OC3/OC1 (io), 12 PA4/OC4/OC1 (io), 13 PA3/OC5/IC4/OC1 (io), 14 PA2/IC1 (io), 15 PA1/IC2 (io), 16 PA0/IC3 (io), 17 PB7/ADDR15 (out), 18 PB6/ADDR14 (out), 19 PB5/ADDR13 (out), 20 PB4/ADDR12 (out), 21 PB3/ADDR11 (out), 22 PB2/ADDR10 (out), 23 PB1/ADDR9 (out), 24 PB0/ADDR8 (out), 25 PH0/PW1 (io), 26 PH1/PW2 (io), 27 PH2/PW3 (io), 28 PH3/PW4 (io), 29 ~{XIRQ} (in), 30 PG7/R/~{W} (io), 31 ~{IRQ} (in), 32 AVDD (power), 33 VSS (power), 34 PE3/AN3 (in), 35 PE2/AN2 (in), 36 PE1/AN1 (in), 37 PE0/AN0 (in), 38 VRL (in), 39 VRH (in), 40 AVSS (power), 41 VSS (power), 42 PF7/ADDR7 (out), 43 PF6/ADDR6 (out), 44 PF5/ADDR5 (out), 45 PF4/ADDR4 (out), 46 PF3/ADDR3 (out), 47 PF2/ADDR2 (out), 48 PF1/ADDR1 (out), 49 PF0/ADDR0 (out), 50 PC0/DATA0 (io), 51 PC1/DATA1 (io), 52 PC2/DATA2 (io), 53 PC3/DATA3 (io), 54 PC4/DATA4 (io), 55 PC5/DATA5 (io), 56 PC6/DATA6 (io), 57 PC7/DATA7 (io), 58 E (out), 59 EXTAL, 60 XTAL, 61 ~{RESET} (io), 62 MODB/VSTBY (in), 63 MODA/~{LIR} (io), 64 PD0/RXD (io)

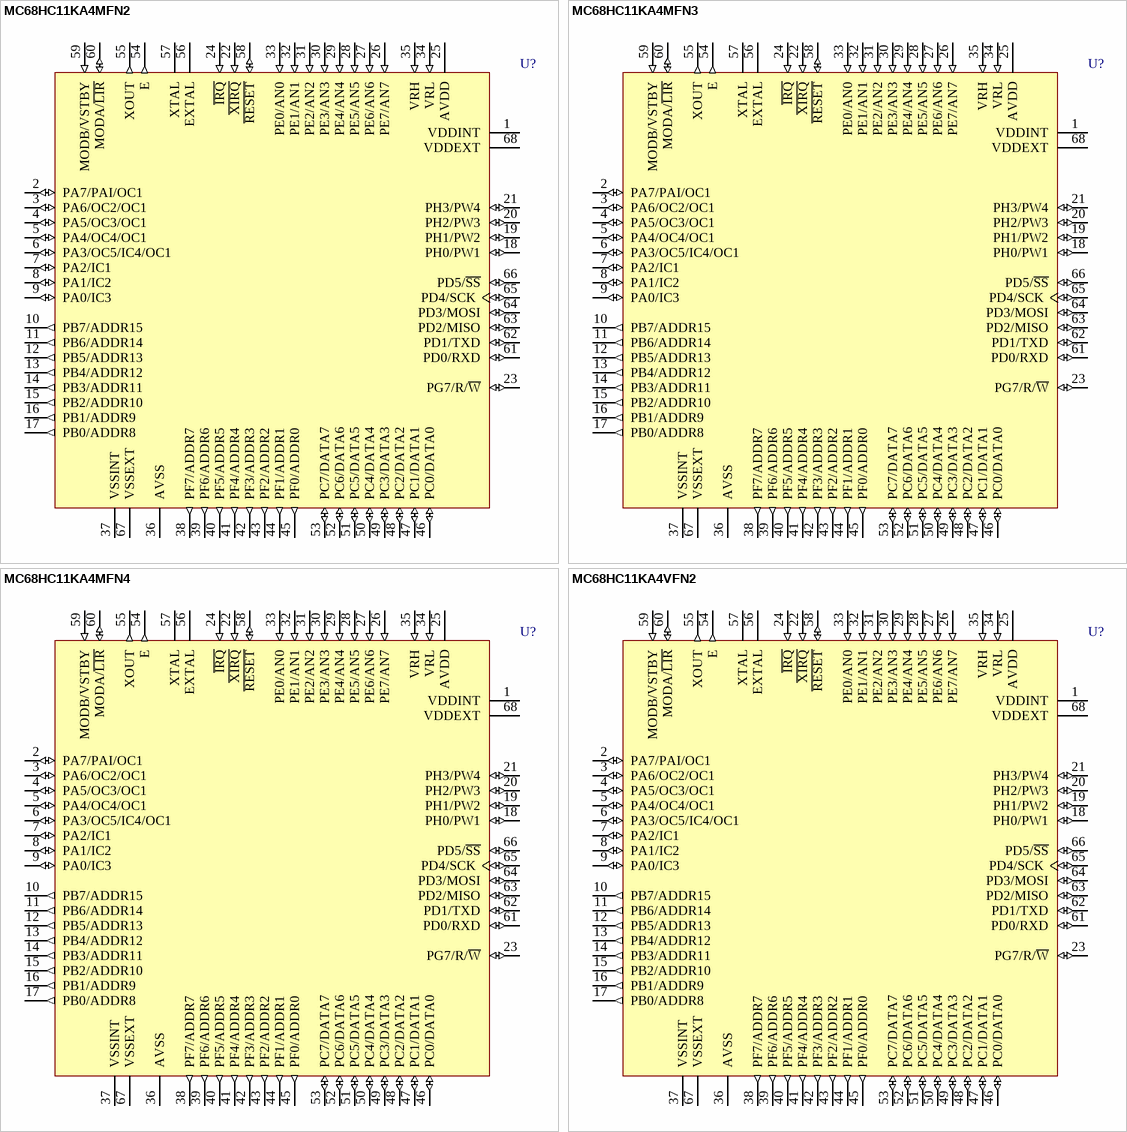
[diagram p61: symbols MC68HC11KA4MFN2 to MC68HC11KA4VFN2]

## MC68HC11KA4MFN2
designator U?
8-Bit Microcontroller; Published: 17-Jan-2003; LatestRevisionDate: 13-Apr-2006; LatestRevisionNote: IPC-7351 Footprint Added.; DatasheetVersion: 1996; PackageVersion: 2001; PackageReference: 779-02; Publisher: Altium Limited; PackageDescription: 68-Pin Leaded Chip Carrier 1.27 mm Pitch; ComponentLink1Description: Manufacturer Link; ComponentLink1URL: http://www.freescale.com/
footprint 779-02_N (Leaded Chip Carrier, 68-Leads, Body 24.2x24.2mm, Pitch 1.27mm, IPC Medium Density)
footprint 779-02_L (Leaded Chip Carrier, 68-Leads, Body 24.2x24.2mm, Pitch 1.27mm, IPC High Density)
footprint 779-02_M (Leaded Chip Carrier, 68-Leads, Body 24.2x24.2mm, Pitch 1.27mm, IPC Low Density)
3D model MC68HC11-779-02 (68-Pin Leaded Chip Carrier 1.27 mm Pitch)
pins: 1 VDDINT (power), 2 PA7/PAI/OC1 (io), 3 PA6/OC2/OC1 (io), 4 PA5/OC3/OC1 (io), 5 PA4/OC4/OC1 (io), 6 PA3/OC5/IC4/OC1 (io), 7 PA2/IC1 (io), 8 PA1/IC2 (io), 9 PA0/IC3 (io), 10 PB7/ADDR15 (out), 11 PB6/ADDR14 (out), 12 PB5/ADDR13 (out), 13 PB4/ADDR12 (out), 14 PB3/ADDR11 (out), 15 PB2/ADDR10 (out), 16 PB1/ADDR9 (out), 17 PB0/ADDR8 (out), 18 PH0/PW1 (io), 19 PH1/PW2 (io), 20 PH2/PW3 (io), 21 PH3/PW4 (io), 22 ~{XIRQ} (in), 23 PG7/R/~{W} (io), 24 ~{IRQ} (in), 25 AVDD (power), 26 PE7/AN7 (in), 27 PE6/AN6 (in), 28 PE5/AN5 (in), 29 PE4/AN4 (in), 30 PE3/AN3 (in), 31 PE2/AN2 (in), 32 PE1/AN1 (in), 33 PE0/AN0 (in), 34 VRL (in), 35 VRH (in), 36 AVSS (power), 37 VSSINT (power), 38 PF7/ADDR7 (out), 39 PF6/ADDR6 (out), 40 PF5/ADDR5 (out), 41 PF4/ADDR4 (out), 42 PF3/ADDR3 (out), 43 PF2/ADDR2 (out), 44 PF1/ADDR1 (out), 45 PF0/ADDR0 (out), 46 PC0/DATA0 (io), 47 PC1/DATA1 (io), 48 PC2/DATA2 (io), 49 PC3/DATA3 (io), 50 PC4/DATA4 (io), 51 PC5/DATA5 (io), 52 PC6/DATA6 (io), 53 PC7/DATA7 (io), 54 E (out), 55 XOUT (out), 56 EXTAL, 57 XTAL, 58 ~{RESET} (io), 59 MODB/VSTBY (in), 60 MODA/~{LIR} (io), 61 PD0/RXD (io), 62 PD1/TXD (io), 63 PD2/MISO (io), 64 PD3/MOSI (io), 65 PD4/SCK (io), 66 PD5/~{SS} (io), 67 VSSEXT (power), 68 VDDEXT (power)

## MC68HC11KA4MFN3
designator U?
8-Bit Microcontroller; Published: 17-Jan-2003; LatestRevisionDate: 13-Apr-2006; LatestRevisionNote: IPC-7351 Footprint Added.; DatasheetVersion: 1996; PackageVersion: 2001; PackageReference: 779-02; Publisher: Altium Limited; PackageDescription: 68-Pin Leaded Chip Carrier 1.27 mm Pitch; ComponentLink1Description: Manufacturer Link; ComponentLink1URL: http://www.freescale.com/
footprint 779-02_N (Leaded Chip Carrier, 68-Leads, Body 24.2x24.2mm, Pitch 1.27mm, IPC Medium Density)
footprint 779-02_L (Leaded Chip Carrier, 68-Leads, Body 24.2x24.2mm, Pitch 1.27mm, IPC High Density)
footprint 779-02_M (Leaded Chip Carrier, 68-Leads, Body 24.2x24.2mm, Pitch 1.27mm, IPC Low Density)
3D model MC68HC11-779-02 (68-Pin Leaded Chip Carrier 1.27 mm Pitch)
pins: 1 VDDINT (power), 2 PA7/PAI/OC1 (io), 3 PA6/OC2/OC1 (io), 4 PA5/OC3/OC1 (io), 5 PA4/OC4/OC1 (io), 6 PA3/OC5/IC4/OC1 (io), 7 PA2/IC1 (io), 8 PA1/IC2 (io), 9 PA0/IC3 (io), 10 PB7/ADDR15 (out), 11 PB6/ADDR14 (out), 12 PB5/ADDR13 (out), 13 PB4/ADDR12 (out), 14 PB3/ADDR11 (out), 15 PB2/ADDR10 (out), 16 PB1/ADDR9 (out), 17 PB0/ADDR8 (out), 18 PH0/PW1 (io), 19 PH1/PW2 (io), 20 PH2/PW3 (io), 21 PH3/PW4 (io), 22 ~{XIRQ} (in), 23 PG7/R/~{W} (io), 24 ~{IRQ} (in), 25 AVDD (power), 26 PE7/AN7 (in), 27 PE6/AN6 (in), 28 PE5/AN5 (in), 29 PE4/AN4 (in), 30 PE3/AN3 (in), 31 PE2/AN2 (in), 32 PE1/AN1 (in), 33 PE0/AN0 (in), 34 VRL (in), 35 VRH (in), 36 AVSS (power), 37 VSSINT (power), 38 PF7/ADDR7 (out), 39 PF6/ADDR6 (out), 40 PF5/ADDR5 (out), 41 PF4/ADDR4 (out), 42 PF3/ADDR3 (out), 43 PF2/ADDR2 (out), 44 PF1/ADDR1 (out), 45 PF0/ADDR0 (out), 46 PC0/DATA0 (io), 47 PC1/DATA1 (io), 48 PC2/DATA2 (io), 49 PC3/DATA3 (io), 50 PC4/DATA4 (io), 51 PC5/DATA5 (io), 52 PC6/DATA6 (io), 53 PC7/DATA7 (io), 54 E (out), 55 XOUT (out), 56 EXTAL, 57 XTAL, 58 ~{RESET} (io), 59 MODB/VSTBY (in), 60 MODA/~{LIR} (io), 61 PD0/RXD (io), 62 PD1/TXD (io), 63 PD2/MISO (io), 64 PD3/MOSI (io), 65 PD4/SCK (io), 66 PD5/~{SS} (io), 67 VSSEXT (power), 68 VDDEXT (power)

## MC68HC11KA4MFN4
designator U?
8-Bit Microcontroller; Published: 17-Jan-2003; LatestRevisionDate: 13-Apr-2006; LatestRevisionNote: IPC-7351 Footprint Added.; DatasheetVersion: 1996; PackageVersion: 2001; PackageReference: 779-02; Publisher: Altium Limited; PackageDescription: 68-Pin Leaded Chip Carrier 1.27 mm Pitch; ComponentLink1Description: Manufacturer Link; ComponentLink1URL: http://www.freescale.com/
footprint 779-02_N (Leaded Chip Carrier, 68-Leads, Body 24.2x24.2mm, Pitch 1.27mm, IPC Medium Density)
footprint 779-02_L (Leaded Chip Carrier, 68-Leads, Body 24.2x24.2mm, Pitch 1.27mm, IPC High Density)
footprint 779-02_M (Leaded Chip Carrier, 68-Leads, Body 24.2x24.2mm, Pitch 1.27mm, IPC Low Density)
3D model MC68HC11-779-02 (68-Pin Leaded Chip Carrier 1.27 mm Pitch)
pins: 1 VDDINT (power), 2 PA7/PAI/OC1 (io), 3 PA6/OC2/OC1 (io), 4 PA5/OC3/OC1 (io), 5 PA4/OC4/OC1 (io), 6 PA3/OC5/IC4/OC1 (io), 7 PA2/IC1 (io), 8 PA1/IC2 (io), 9 PA0/IC3 (io), 10 PB7/ADDR15 (out), 11 PB6/ADDR14 (out), 12 PB5/ADDR13 (out), 13 PB4/ADDR12 (out), 14 PB3/ADDR11 (out), 15 PB2/ADDR10 (out), 16 PB1/ADDR9 (out), 17 PB0/ADDR8 (out), 18 PH0/PW1 (io), 19 PH1/PW2 (io), 20 PH2/PW3 (io), 21 PH3/PW4 (io), 22 ~{XIRQ} (in), 23 PG7/R/~{W} (io), 24 ~{IRQ} (in), 25 AVDD (power), 26 PE7/AN7 (in), 27 PE6/AN6 (in), 28 PE5/AN5 (in), 29 PE4/AN4 (in), 30 PE3/AN3 (in), 31 PE2/AN2 (in), 32 PE1/AN1 (in), 33 PE0/AN0 (in), 34 VRL (in), 35 VRH (in), 36 AVSS (power), 37 VSSINT (power), 38 PF7/ADDR7 (out), 39 PF6/ADDR6 (out), 40 PF5/ADDR5 (out), 41 PF4/ADDR4 (out), 42 PF3/ADDR3 (out), 43 PF2/ADDR2 (out), 44 PF1/ADDR1 (out), 45 PF0/ADDR0 (out), 46 PC0/DATA0 (io), 47 PC1/DATA1 (io), 48 PC2/DATA2 (io), 49 PC3/DATA3 (io), 50 PC4/DATA4 (io), 51 PC5/DATA5 (io), 52 PC6/DATA6 (io), 53 PC7/DATA7 (io), 54 E (out), 55 XOUT (out), 56 EXTAL, 57 XTAL, 58 ~{RESET} (io), 59 MODB/VSTBY (in), 60 MODA/~{LIR} (io), 61 PD0/RXD (io), 62 PD1/TXD (io), 63 PD2/MISO (io), 64 PD3/MOSI (io), 65 PD4/SCK (io), 66 PD5/~{SS} (io), 67 VSSEXT (power), 68 VDDEXT (power)

## MC68HC11KA4VFN2
designator U?
8-Bit Microcontroller; Published: 17-Jan-2003; LatestRevisionDate: 13-Apr-2006; LatestRevisionNote: IPC-7351 Footprint Added.; DatasheetVersion: 1996; PackageVersion: 2001; PackageReference: 779-02; Publisher: Altium Limited; PackageDescription: 68-Pin Leaded Chip Carrier 1.27 mm Pitch; ComponentLink1Description: Manufacturer Link; ComponentLink1URL: http://www.freescale.com/
footprint 779-02_N (Leaded Chip Carrier, 68-Leads, Body 24.2x24.2mm, Pitch 1.27mm, IPC Medium Density)
footprint 779-02_L (Leaded Chip Carrier, 68-Leads, Body 24.2x24.2mm, Pitch 1.27mm, IPC High Density)
footprint 779-02_M (Leaded Chip Carrier, 68-Leads, Body 24.2x24.2mm, Pitch 1.27mm, IPC Low Density)
3D model MC68HC11-779-02 (68-Pin Leaded Chip Carrier 1.27 mm Pitch)
pins: 1 VDDINT (power), 2 PA7/PAI/OC1 (io), 3 PA6/OC2/OC1 (io), 4 PA5/OC3/OC1 (io), 5 PA4/OC4/OC1 (io), 6 PA3/OC5/IC4/OC1 (io), 7 PA2/IC1 (io), 8 PA1/IC2 (io), 9 PA0/IC3 (io), 10 PB7/ADDR15 (out), 11 PB6/ADDR14 (out), 12 PB5/ADDR13 (out), 13 PB4/ADDR12 (out), 14 PB3/ADDR11 (out), 15 PB2/ADDR10 (out), 16 PB1/ADDR9 (out), 17 PB0/ADDR8 (out), 18 PH0/PW1 (io), 19 PH1/PW2 (io), 20 PH2/PW3 (io), 21 PH3/PW4 (io), 22 ~{XIRQ} (in), 23 PG7/R/~{W} (io), 24 ~{IRQ} (in), 25 AVDD (power), 26 PE7/AN7 (in), 27 PE6/AN6 (in), 28 PE5/AN5 (in), 29 PE4/AN4 (in), 30 PE3/AN3 (in), 31 PE2/AN2 (in), 32 PE1/AN1 (in), 33 PE0/AN0 (in), 34 VRL (in), 35 VRH (in), 36 AVSS (power), 37 VSSINT (power), 38 PF7/ADDR7 (out), 39 PF6/ADDR6 (out), 40 PF5/ADDR5 (out), 41 PF4/ADDR4 (out), 42 PF3/ADDR3 (out), 43 PF2/ADDR2 (out), 44 PF1/ADDR1 (out), 45 PF0/ADDR0 (out), 46 PC0/DATA0 (io), 47 PC1/DATA1 (io), 48 PC2/DATA2 (io), 49 PC3/DATA3 (io), 50 PC4/DATA4 (io), 51 PC5/DATA5 (io), 52 PC6/DATA6 (io), 53 PC7/DATA7 (io), 54 E (out), 55 XOUT (out), 56 EXTAL, 57 XTAL, 58 ~{RESET} (io), 59 MODB/VSTBY (in), 60 MODA/~{LIR} (io), 61 PD0/RXD (io), 62 PD1/TXD (io), 63 PD2/MISO (io), 64 PD3/MOSI (io), 65 PD4/SCK (io), 66 PD5/~{SS} (io), 67 VSSEXT (power), 68 VDDEXT (power)

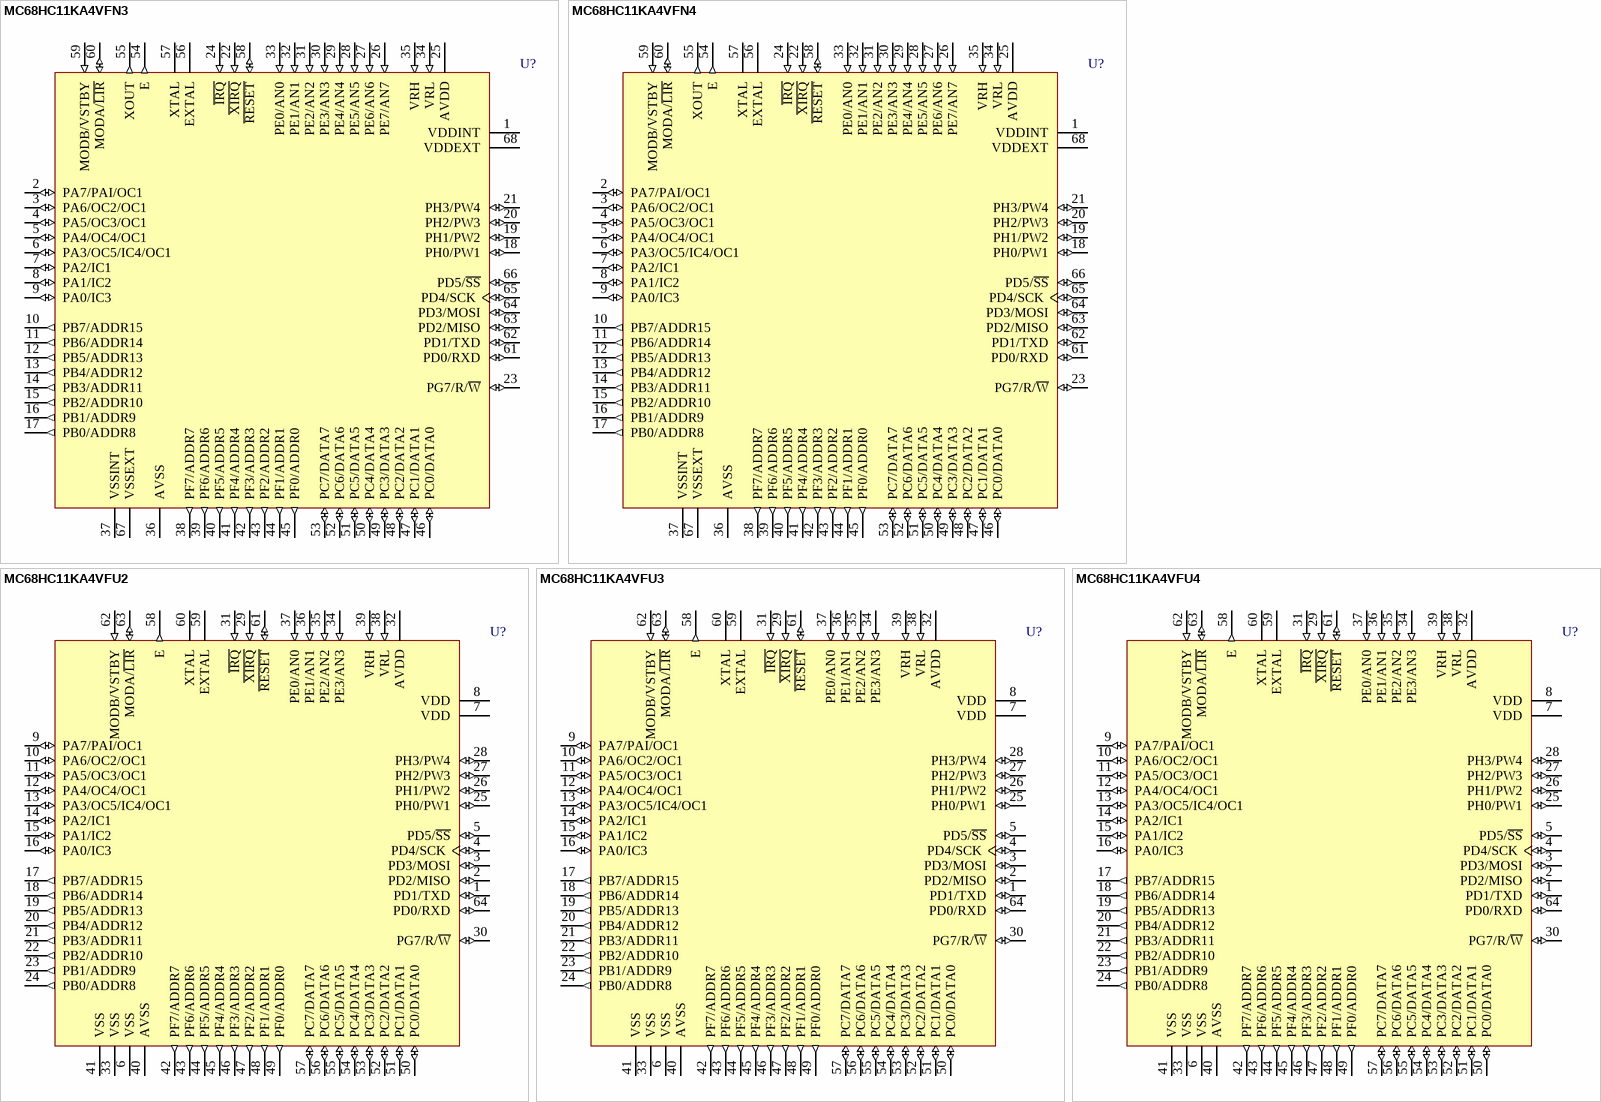
[diagram p62: symbols MC68HC11KA4VFN3 to MC68HC11KA4VFU4]

## MC68HC11KA4VFN3
designator U?
8-Bit Microcontroller; Published: 17-Jan-2003; LatestRevisionDate: 13-Apr-2006; LatestRevisionNote: IPC-7351 Footprint Added.; DatasheetVersion: 1996; PackageVersion: 2001; PackageReference: 779-02; Publisher: Altium Limited; PackageDescription: 68-Pin Leaded Chip Carrier 1.27 mm Pitch; ComponentLink1Description: Manufacturer Link; ComponentLink1URL: http://www.freescale.com/
footprint 779-02_N (Leaded Chip Carrier, 68-Leads, Body 24.2x24.2mm, Pitch 1.27mm, IPC Medium Density)
footprint 779-02_L (Leaded Chip Carrier, 68-Leads, Body 24.2x24.2mm, Pitch 1.27mm, IPC High Density)
footprint 779-02_M (Leaded Chip Carrier, 68-Leads, Body 24.2x24.2mm, Pitch 1.27mm, IPC Low Density)
3D model MC68HC11-779-02 (68-Pin Leaded Chip Carrier 1.27 mm Pitch)
pins: 1 VDDINT (power), 2 PA7/PAI/OC1 (io), 3 PA6/OC2/OC1 (io), 4 PA5/OC3/OC1 (io), 5 PA4/OC4/OC1 (io), 6 PA3/OC5/IC4/OC1 (io), 7 PA2/IC1 (io), 8 PA1/IC2 (io), 9 PA0/IC3 (io), 10 PB7/ADDR15 (out), 11 PB6/ADDR14 (out), 12 PB5/ADDR13 (out), 13 PB4/ADDR12 (out), 14 PB3/ADDR11 (out), 15 PB2/ADDR10 (out), 16 PB1/ADDR9 (out), 17 PB0/ADDR8 (out), 18 PH0/PW1 (io), 19 PH1/PW2 (io), 20 PH2/PW3 (io), 21 PH3/PW4 (io), 22 ~{XIRQ} (in), 23 PG7/R/~{W} (io), 24 ~{IRQ} (in), 25 AVDD (power), 26 PE7/AN7 (in), 27 PE6/AN6 (in), 28 PE5/AN5 (in), 29 PE4/AN4 (in), 30 PE3/AN3 (in), 31 PE2/AN2 (in), 32 PE1/AN1 (in), 33 PE0/AN0 (in), 34 VRL (in), 35 VRH (in), 36 AVSS (power), 37 VSSINT (power), 38 PF7/ADDR7 (out), 39 PF6/ADDR6 (out), 40 PF5/ADDR5 (out), 41 PF4/ADDR4 (out), 42 PF3/ADDR3 (out), 43 PF2/ADDR2 (out), 44 PF1/ADDR1 (out), 45 PF0/ADDR0 (out), 46 PC0/DATA0 (io), 47 PC1/DATA1 (io), 48 PC2/DATA2 (io), 49 PC3/DATA3 (io), 50 PC4/DATA4 (io), 51 PC5/DATA5 (io), 52 PC6/DATA6 (io), 53 PC7/DATA7 (io), 54 E (out), 55 XOUT (out), 56 EXTAL, 57 XTAL, 58 ~{RESET} (io), 59 MODB/VSTBY (in), 60 MODA/~{LIR} (io), 61 PD0/RXD (io), 62 PD1/TXD (io), 63 PD2/MISO (io), 64 PD3/MOSI (io), 65 PD4/SCK (io), 66 PD5/~{SS} (io), 67 VSSEXT (power), 68 VDDEXT (power)

## MC68HC11KA4VFN4
designator U?
8-Bit Microcontroller; Published: 17-Jan-2003; LatestRevisionDate: 13-Apr-2006; LatestRevisionNote: IPC-7351 Footprint Added.; DatasheetVersion: 1996; PackageVersion: 2001; PackageReference: 779-02; Publisher: Altium Limited; PackageDescription: 68-Pin Leaded Chip Carrier 1.27 mm Pitch; ComponentLink1Description: Manufacturer Link; ComponentLink1URL: http://www.freescale.com/
footprint 779-02_N (Leaded Chip Carrier, 68-Leads, Body 24.2x24.2mm, Pitch 1.27mm, IPC Medium Density)
footprint 779-02_L (Leaded Chip Carrier, 68-Leads, Body 24.2x24.2mm, Pitch 1.27mm, IPC High Density)
footprint 779-02_M (Leaded Chip Carrier, 68-Leads, Body 24.2x24.2mm, Pitch 1.27mm, IPC Low Density)
3D model MC68HC11-779-02 (68-Pin Leaded Chip Carrier 1.27 mm Pitch)
pins: 1 VDDINT (power), 2 PA7/PAI/OC1 (io), 3 PA6/OC2/OC1 (io), 4 PA5/OC3/OC1 (io), 5 PA4/OC4/OC1 (io), 6 PA3/OC5/IC4/OC1 (io), 7 PA2/IC1 (io), 8 PA1/IC2 (io), 9 PA0/IC3 (io), 10 PB7/ADDR15 (out), 11 PB6/ADDR14 (out), 12 PB5/ADDR13 (out), 13 PB4/ADDR12 (out), 14 PB3/ADDR11 (out), 15 PB2/ADDR10 (out), 16 PB1/ADDR9 (out), 17 PB0/ADDR8 (out), 18 PH0/PW1 (io), 19 PH1/PW2 (io), 20 PH2/PW3 (io), 21 PH3/PW4 (io), 22 ~{XIRQ} (in), 23 PG7/R/~{W} (io), 24 ~{IRQ} (in), 25 AVDD (power), 26 PE7/AN7 (in), 27 PE6/AN6 (in), 28 PE5/AN5 (in), 29 PE4/AN4 (in), 30 PE3/AN3 (in), 31 PE2/AN2 (in), 32 PE1/AN1 (in), 33 PE0/AN0 (in), 34 VRL (in), 35 VRH (in), 36 AVSS (power), 37 VSSINT (power), 38 PF7/ADDR7 (out), 39 PF6/ADDR6 (out), 40 PF5/ADDR5 (out), 41 PF4/ADDR4 (out), 42 PF3/ADDR3 (out), 43 PF2/ADDR2 (out), 44 PF1/ADDR1 (out), 45 PF0/ADDR0 (out), 46 PC0/DATA0 (io), 47 PC1/DATA1 (io), 48 PC2/DATA2 (io), 49 PC3/DATA3 (io), 50 PC4/DATA4 (io), 51 PC5/DATA5 (io), 52 PC6/DATA6 (io), 53 PC7/DATA7 (io), 54 E (out), 55 XOUT (out), 56 EXTAL, 57 XTAL, 58 ~{RESET} (io), 59 MODB/VSTBY (in), 60 MODA/~{LIR} (io), 61 PD0/RXD (io), 62 PD1/TXD (io), 63 PD2/MISO (io), 64 PD3/MOSI (io), 65 PD4/SCK (io), 66 PD5/~{SS} (io), 67 VSSEXT (power), 68 VDDEXT (power)

## MC68HC11KA4VFU2
designator U?
8-Bit Microcontroller; Published: 17-Jan-2003; LatestRevisionDate: 13-Apr-2006; LatestRevisionNote: IPC-7351 Footprint Added.; DatasheetVersion: 1996; PackageVersion: rev4, Jul-2002; PackageReference: 840C; Publisher: Altium Limited; PackageDescription: 64-Pin Quad Flat Pack 0.8 mm Pitch; ComponentLink1Description: Manufacturer Link; ComponentLink1URL: http://www.freescale.com/
footprint 840C_N (QFP, 64-Leads, Body 14x14mm, Pitch 0.8mm, IPC Medium Density)
footprint 840C_L (QFP, 64-Leads, Body 14x14mm, Pitch 0.8mm, IPC High Density)
footprint 840C_M (QFP, 64-Leads, Body 14x14mm, Pitch 0.8mm, IPC Low Density)
3D model MC68HC11-840C (64-Pin Quad Flat Pack 0.8 mm Pitch)
pins: 1 PD1/TXD (io), 2 PD2/MISO (io), 3 PD3/MOSI (io), 4 PD4/SCK (io), 5 PD5/~{SS} (io), 6 VSS (power), 7 VDD (power), 8 VDD (power), 9 PA7/PAI/OC1 (io), 10 PA6/OC2/OC1 (io), 11 PA5/OC3/OC1 (io), 12 PA4/OC4/OC1 (io), 13 PA3/OC5/IC4/OC1 (io), 14 PA2/IC1 (io), 15 PA1/IC2 (io), 16 PA0/IC3 (io), 17 PB7/ADDR15 (out), 18 PB6/ADDR14 (out), 19 PB5/ADDR13 (out), 20 PB4/ADDR12 (out), 21 PB3/ADDR11 (out), 22 PB2/ADDR10 (out), 23 PB1/ADDR9 (out), 24 PB0/ADDR8 (out), 25 PH0/PW1 (io), 26 PH1/PW2 (io), 27 PH2/PW3 (io), 28 PH3/PW4 (io), 29 ~{XIRQ} (in), 30 PG7/R/~{W} (io), 31 ~{IRQ} (in), 32 AVDD (power), 33 VSS (power), 34 PE3/AN3 (in), 35 PE2/AN2 (in), 36 PE1/AN1 (in), 37 PE0/AN0 (in), 38 VRL (in), 39 VRH (in), 40 AVSS (power), 41 VSS (power), 42 PF7/ADDR7 (out), 43 PF6/ADDR6 (out), 44 PF5/ADDR5 (out), 45 PF4/ADDR4 (out), 46 PF3/ADDR3 (out), 47 PF2/ADDR2 (out), 48 PF1/ADDR1 (out), 49 PF0/ADDR0 (out), 50 PC0/DATA0 (io), 51 PC1/DATA1 (io), 52 PC2/DATA2 (io), 53 PC3/DATA3 (io), 54 PC4/DATA4 (io), 55 PC5/DATA5 (io), 56 PC6/DATA6 (io), 57 PC7/DATA7 (io), 58 E (out), 59 EXTAL, 60 XTAL, 61 ~{RESET} (io), 62 MODB/VSTBY (in), 63 MODA/~{LIR} (io), 64 PD0/RXD (io)

## MC68HC11KA4VFU3
designator U?
8-Bit Microcontroller; Published: 17-Jan-2003; LatestRevisionDate: 13-Apr-2006; LatestRevisionNote: IPC-7351 Footprint Added.; DatasheetVersion: 1996; PackageVersion: rev4, Jul-2002; PackageReference: 840C; Publisher: Altium Limited; PackageDescription: 64-Pin Quad Flat Pack 0.8 mm Pitch; ComponentLink1Description: Manufacturer Link; ComponentLink1URL: http://www.freescale.com/
footprint 840C_N (QFP, 64-Leads, Body 14x14mm, Pitch 0.8mm, IPC Medium Density)
footprint 840C_L (QFP, 64-Leads, Body 14x14mm, Pitch 0.8mm, IPC High Density)
footprint 840C_M (QFP, 64-Leads, Body 14x14mm, Pitch 0.8mm, IPC Low Density)
3D model MC68HC11-840C (64-Pin Quad Flat Pack 0.8 mm Pitch)
pins: 1 PD1/TXD (io), 2 PD2/MISO (io), 3 PD3/MOSI (io), 4 PD4/SCK (io), 5 PD5/~{SS} (io), 6 VSS (power), 7 VDD (power), 8 VDD (power), 9 PA7/PAI/OC1 (io), 10 PA6/OC2/OC1 (io), 11 PA5/OC3/OC1 (io), 12 PA4/OC4/OC1 (io), 13 PA3/OC5/IC4/OC1 (io), 14 PA2/IC1 (io), 15 PA1/IC2 (io), 16 PA0/IC3 (io), 17 PB7/ADDR15 (out), 18 PB6/ADDR14 (out), 19 PB5/ADDR13 (out), 20 PB4/ADDR12 (out), 21 PB3/ADDR11 (out), 22 PB2/ADDR10 (out), 23 PB1/ADDR9 (out), 24 PB0/ADDR8 (out), 25 PH0/PW1 (io), 26 PH1/PW2 (io), 27 PH2/PW3 (io), 28 PH3/PW4 (io), 29 ~{XIRQ} (in), 30 PG7/R/~{W} (io), 31 ~{IRQ} (in), 32 AVDD (power), 33 VSS (power), 34 PE3/AN3 (in), 35 PE2/AN2 (in), 36 PE1/AN1 (in), 37 PE0/AN0 (in), 38 VRL (in), 39 VRH (in), 40 AVSS (power), 41 VSS (power), 42 PF7/ADDR7 (out), 43 PF6/ADDR6 (out), 44 PF5/ADDR5 (out), 45 PF4/ADDR4 (out), 46 PF3/ADDR3 (out), 47 PF2/ADDR2 (out), 48 PF1/ADDR1 (out), 49 PF0/ADDR0 (out), 50 PC0/DATA0 (io), 51 PC1/DATA1 (io), 52 PC2/DATA2 (io), 53 PC3/DATA3 (io), 54 PC4/DATA4 (io), 55 PC5/DATA5 (io), 56 PC6/DATA6 (io), 57 PC7/DATA7 (io), 58 E (out), 59 EXTAL, 60 XTAL, 61 ~{RESET} (io), 62 MODB/VSTBY (in), 63 MODA/~{LIR} (io), 64 PD0/RXD (io)

## MC68HC11KA4VFU4
designator U?
8-Bit Microcontroller; Published: 17-Jan-2003; LatestRevisionDate: 13-Apr-2006; LatestRevisionNote: IPC-7351 Footprint Added.; DatasheetVersion: 1996; PackageVersion: rev4, Jul-2002; PackageReference: 840C; Publisher: Altium Limited; PackageDescription: 64-Pin Quad Flat Pack 0.8 mm Pitch; ComponentLink1Description: Manufacturer Link; ComponentLink1URL: http://www.freescale.com/
footprint 840C_N (QFP, 64-Leads, Body 14x14mm, Pitch 0.8mm, IPC Medium Density)
footprint 840C_L (QFP, 64-Leads, Body 14x14mm, Pitch 0.8mm, IPC High Density)
footprint 840C_M (QFP, 64-Leads, Body 14x14mm, Pitch 0.8mm, IPC Low Density)
3D model MC68HC11-840C (64-Pin Quad Flat Pack 0.8 mm Pitch)
pins: 1 PD1/TXD (io), 2 PD2/MISO (io), 3 PD3/MOSI (io), 4 PD4/SCK (io), 5 PD5/~{SS} (io), 6 VSS (power), 7 VDD (power), 8 VDD (power), 9 PA7/PAI/OC1 (io), 10 PA6/OC2/OC1 (io), 11 PA5/OC3/OC1 (io), 12 PA4/OC4/OC1 (io), 13 PA3/OC5/IC4/OC1 (io), 14 PA2/IC1 (io), 15 PA1/IC2 (io), 16 PA0/IC3 (io), 17 PB7/ADDR15 (out), 18 PB6/ADDR14 (out), 19 PB5/ADDR13 (out), 20 PB4/ADDR12 (out), 21 PB3/ADDR11 (out), 22 PB2/ADDR10 (out), 23 PB1/ADDR9 (out), 24 PB0/ADDR8 (out), 25 PH0/PW1 (io), 26 PH1/PW2 (io), 27 PH2/PW3 (io), 28 PH3/PW4 (io), 29 ~{XIRQ} (in), 30 PG7/R/~{W} (io), 31 ~{IRQ} (in), 32 AVDD (power), 33 VSS (power), 34 PE3/AN3 (in), 35 PE2/AN2 (in), 36 PE1/AN1 (in), 37 PE0/AN0 (in), 38 VRL (in), 39 VRH (in), 40 AVSS (power), 41 VSS (power), 42 PF7/ADDR7 (out), 43 PF6/ADDR6 (out), 44 PF5/ADDR5 (out), 45 PF4/ADDR4 (out), 46 PF3/ADDR3 (out), 47 PF2/ADDR2 (out), 48 PF1/ADDR1 (out), 49 PF0/ADDR0 (out), 50 PC0/DATA0 (io), 51 PC1/DATA1 (io), 52 PC2/DATA2 (io), 53 PC3/DATA3 (io), 54 PC4/DATA4 (io), 55 PC5/DATA5 (io), 56 PC6/DATA6 (io), 57 PC7/DATA7 (io), 58 E (out), 59 EXTAL, 60 XTAL, 61 ~{RESET} (io), 62 MODB/VSTBY (in), 63 MODA/~{LIR} (io), 64 PD0/RXD (io)

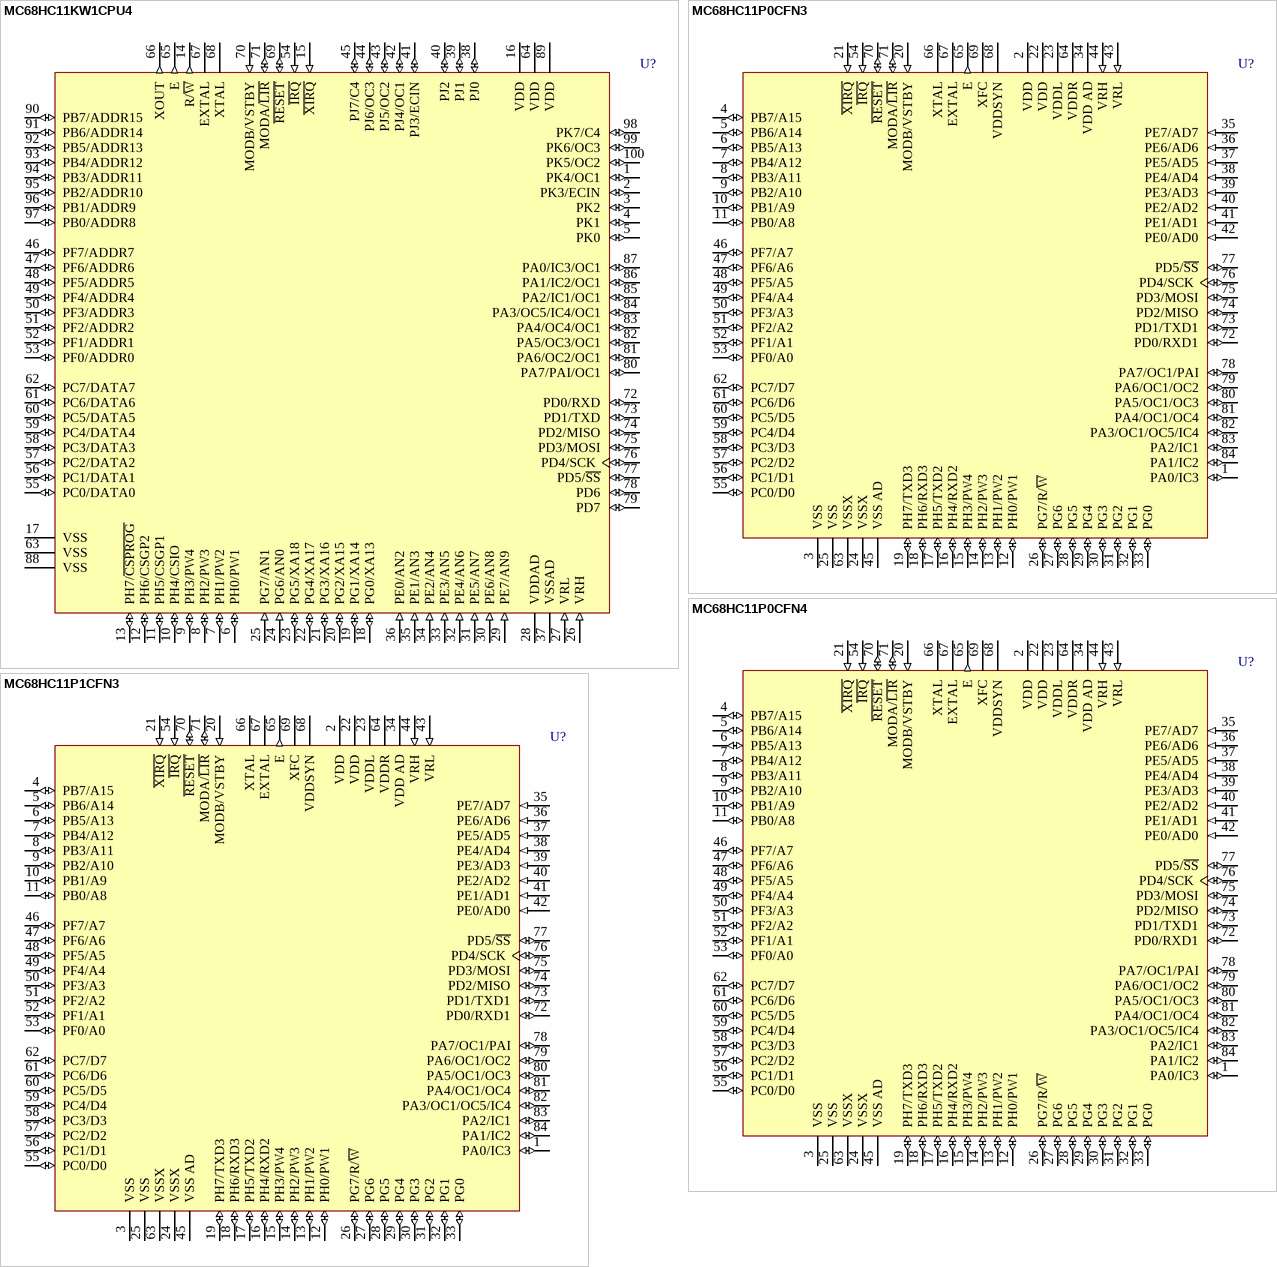
[diagram p63: symbols MC68HC11KW1CPU4 to MC68HC11P1CFN3]

## MC68HC11KW1CPU4
designator U?
8-Bit Microcontroller; Published: 17-Jan-2003; LatestRevisionDate: 13-Apr-2006; LatestRevisionNote: IPC-7351 Footprint Added.; DatasheetVersion: 10-Jan-1999; PackageVersion: 1999; PackageReference: 983-01; Publisher: Altium Limited; PackageDescription: 100-Pin Thin Quad Flat Pack 0.5 mm Pitch; ComponentLink1Description: Manufacturer Link; ComponentLink1URL: http://www.freescale.com/; ComponentLink2Description: Datasheet; ComponentLink2URL: http://www.freescale.com/files/microcontrollers/doc/data_sheet/M68HC11K.pdf
footprint 983-01_N (Thin QFP, 100-Leads, Body 14x14mm, Pitch 0.5mm, IPC Medium Density)
footprint 983-01_L (Thin QFP, 100-Leads, Body 14x14mm, Pitch 0.5mm, IPC High Density)
footprint 983-01_M (Thin QFP, 100-Leads, Body 14x14mm, Pitch 0.5mm, IPC Low Density)
3D model MC68HC11-983-01 (100-Pin Thin Quad Flat Pack 0.5 mm Pitch)
pins: 1 PK4/OC1 (io), 2 PK3/ECIN (io), 3 PK2 (io), 4 PK1 (io), 5 PK0 (io), 6 PH0/PW1 (io), 7 PH1/PW2 (io), 8 PH2/PW3 (io), 9 PH3/PW4 (io), 10 PH4/CSIO (io), 11 PH5/CSGP1 (io), 12 PH6/CSGP2 (io), 13 PH7/~{CSPROG} (io), 14 R/~{W} (out), 15 ~{XIRQ} (in), 16 VDD (power), 17 VSS (power), 18 PG0/XA13 (io), 19 PG1/XA14 (io), 20 PG2/XA15 (io), 21 PG3/XA16 (io), 22 PG4/XA17 (io), 23 PG5/XA18 (io), 24 PG6/AN0 (in), 25 PG7/AN1 (in), 26 VRH (in), 27 VRL (in), 28 VDDAD (power), 29 PE7/AN9 (in), 30 PE6/AN8 (in), 31 PE5/AN7 (in), 32 PE4/AN6 (in), 33 PE3/AN5 (in), 34 PE2/AN4 (in), 35 PE1/AN3 (in), 36 PE0/AN2 (in), 37 VSSAD (power), 38 PJ0 (io), 39 PJ1 (io), 40 PJ2 (io), 41 PJ3/ECIN (io), 42 PJ4/OC1 (io), 43 PJ5/OC2 (io), 44 PJ6/OC3 (io), 45 PJ7/C4 (io), 46 PF7/ADDR7 (io), 47 PF6/ADDR6 (io), 48 PF5/ADDR5 (io), 49 PF4/ADDR4 (io), 50 PF3/ADDR3 (io), 51 PF2/ADDR2 (io), 52 PF1/ADDR1 (io), 53 PF0/ADDR0 (io), 54 ~{IRQ} (in), 55 PC0/DATA0 (io), 56 PC1/DATA1 (io), 57 PC2/DATA2 (io), 58 PC3/DATA3 (io), 59 PC4/DATA4 (io), 60 PC5/DATA5 (io), 61 PC6/DATA6 (io), 62 PC7/DATA7 (io), 63 VSS (power), 64 VDD (power), 65 E (out), 66 XOUT (out), 67 EXTAL, 68 XTAL, 69 ~{RESET} (io), 70 MODB/VSTBY (in), 71 MODA/~{LIR} (io), 72 PD0/RXD (io), 73 PD1/TXD (io), 74 PD2/MISO (io), 75 PD3/MOSI (io), 76 PD4/SCK (io), 77 PD5/~{SS} (io), 78 PD6 (io), 79 PD7 (io), 80 PA7/PAI/OC1 (io), 81 PA6/OC2/OC1 (io), 82 PA5/OC3/OC1 (io), 83 PA4/OC4/OC1 (io), 84 PA3/OC5/IC4/OC1 (io), 85 PA2/IC1/OC1 (io), 86 PA1/IC2/OC1 (io), 87 PA0/IC3/OC1 (io), 88 VSS (power), 89 VDD (power), 90 PB7/ADDR15 (io), 91 PB6/ADDR14 (io), 92 PB5/ADDR13 (io), 93 PB4/ADDR12 (io), 94 PB3/ADDR11 (io), 95 PB2/ADDR10 (io), 96 PB1/ADDR9 (io), 97 PB0/ADDR8 (io), 98 PK7/C4 (io), 99 PK6/OC3 (io), 100 PK5/OC2 (io)